# Altium integrated library Renesas Microprocessor SuperH.IntLib: 433 symbols (part 43 of 62)
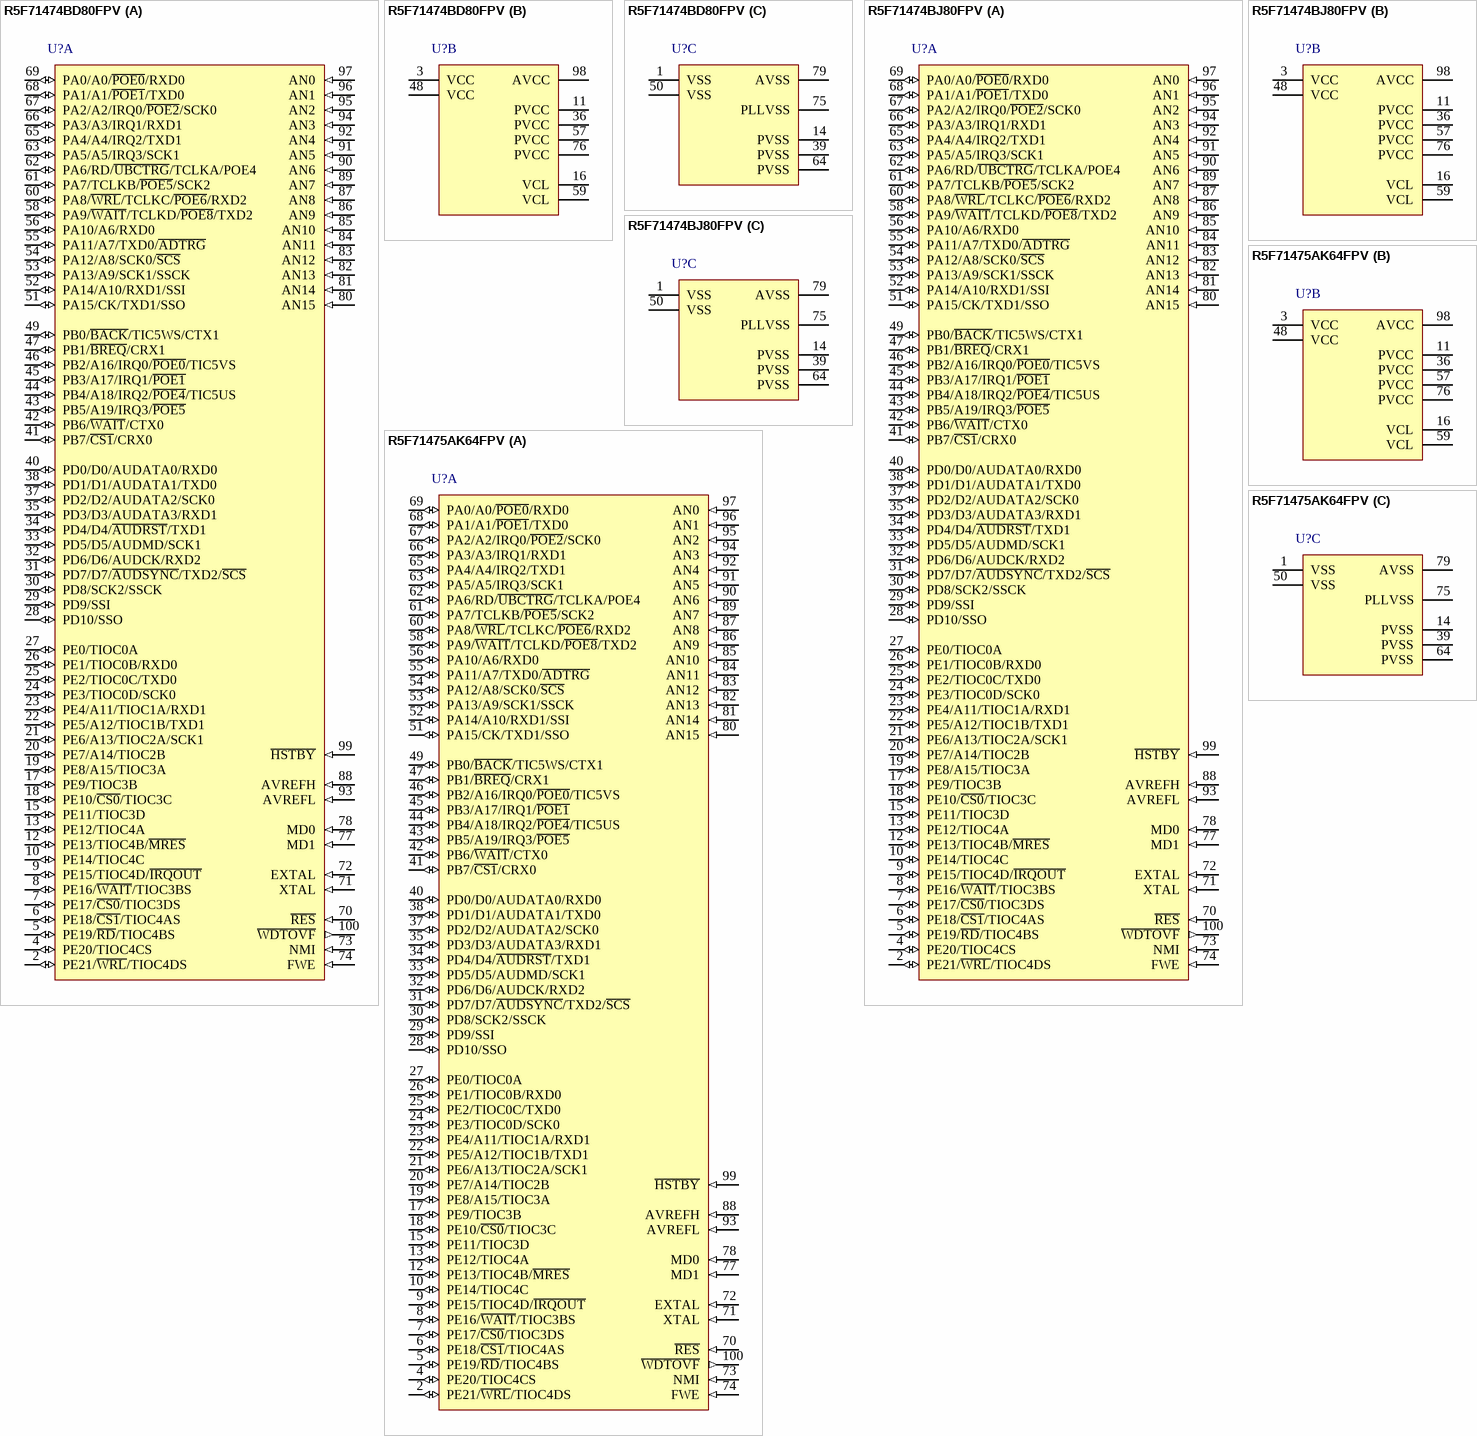
[diagram p307: symbols R5F71474BD80FPV to R5F71475AK64FPV]

## R5F71475AK64FPV
designator U?
32-Bit RISC Microcomputer, SH7147 Series, SH-2 core, 64MHz, 384K ROM, 16K RAM, 100-pin PLQFP, -40 to 125°C; Published: 28-Aug-2009; DatasheetVersion: Rev.3.00, Oct-2008; PackageVersion: Sep-2005; PackageReference: PLQP0100KB-A; Publisher: Altium Limited; PackageDescription: 100-Pin Plastic Low Profile QFP, 14 x 14 x 1.4 mm Body, 0.5 mm Pitch; Code_JEITA: P-LQFP100-14x14-0.50; Code_IPC: SQFP50P1600X1600-100; ComponentLink1Description: Manufacturer Link; ComponentLink1URL: http://www.renesas.com/fmwk.jsp?cnt=sh7147_root.jsp&fp=/products/mpumcu/superh_family/sh7147_series/sh7147_group/; ComponentLink2Description: Datasheet; ComponentLink2URL: http://documentation.renesas.com/eng/products/mpumcu/rej09b0230_sh7147hm.pdf; ComponentLink3Description: Packaging Specification; ComponentLink3URL: http://sg.renesas.com/media/products/common_info/package/pdf/ic/code/plqp0100kb_a.pdf
footprint PLQP0100KB-A_N (Shrink QFP, 100-Leads, Body 14x14mm, Pitch 0.5mm, IPC Medium Density)
footprint PLQP0100KB-A_L (Shrink QFP, 100-Leads, Body 14x14mm, Pitch 0.5mm, IPC High Density)
footprint PLQP0100KB-A_M (Shrink QFP, 100-Leads, Body 14x14mm, Pitch 0.5mm, IPC Low Density)
part A pins: 2 PE21/~{WRL}/TIOC4DS (io), 4 PE20/TIOC4CS (io), 5 PE19/~{RD}/TIOC4BS (io), 6 PE18/~{CS1}/TIOC4AS (io), 7 PE17/~{CS0}/TIOC3DS (io), 8 PE16/~{WAIT}/TIOC3BS (io), 9 PE15/TIOC4D/~{IRQOUT} (io), 10 PE14/TIOC4C (io), 12 PE13/TIOC4B/~{MRES} (io), 13 PE12/TIOC4A (io), 15 PE11/TIOC3D (io), 17 PE9/TIOC3B (io), 18 PE10/~{CS0}/TIOC3C (io), 19 PE8/A15/TIOC3A (io), 20 PE7/A14/TIOC2B (io), 21 PE6/A13/TIOC2A/SCK1 (io), 22 PE5/A12/TIOC1B/TXD1 (io), 23 PE4/A11/TIOC1A/RXD1 (io), 24 PE3/TIOC0D/SCK0 (io), 25 PE2/TIOC0C/TXD0 (io), 26 PE1/TIOC0B/RXD0 (io), 27 PE0/TIOC0A (io), 28 PD10/SSO (io), 29 PD9/SSI (io), 30 PD8/SCK2/SSCK (io), 31 PD7/D7/~{AUDSYNC}/TXD2/~{SCS} (io), 32 PD6/D6/AUDCK/RXD2 (io), 33 PD5/D5/AUDMD/SCK1 (io), 34 PD4/D4/~{AUDRST}/TXD1 (io), 35 PD3/D3/AUDATA3/RXD1 (io), 37 PD2/D2/AUDATA2/SCK0 (io), 38 PD1/D1/AUDATA1/TXD0 (io), 40 PD0/D0/AUDATA0/RXD0 (io), 41 PB7/~{CS1}/CRX0 (io), 42 PB6/~{WAIT}/CTX0 (io), 43 PB5/A19/IRQ3/~{POE5} (io), 44 PB4/A18/IRQ2/~{POE4}/TIC5US (io), 45 PB3/A17/IRQ1/~{POE1} (io), 46 PB2/A16/IRQ0/~{POE0}/TIC5VS (io), 47 PB1/~{BREQ}/CRX1 (io), 49 PB0/~{BACK}/TIC5WS/CTX1 (io), 51 PA15/CK/TXD1/SSO (io), 52 PA14/A10/RXD1/SSI (io), 53 PA13/A9/SCK1/SSCK (io), 54 PA12/A8/SCK0/~{SCS} (io), 55 PA11/A7/TXD0/~{ADTRG} (io), 56 PA10/A6/RXD0 (io), 58 PA9/~{WAIT}/TCLKD/~{POE8}/TXD2 (io), 60 PA8/~{WRL}/TCLKC/~{POE6}/RXD2 (io), 61 PA7/TCLKB/~{POE5}/SCK2 (io), 62 PA6/RD/~{UBCTRG}/TCLKA/POE4 (io), 63 PA5/A5/IRQ3/SCK1 (io), 65 PA4/A4/IRQ2/TXD1 (io), 66 PA3/A3/IRQ1/RXD1 (io), 67 PA2/A2/IRQ0/~{POE2}/SCK0 (io), 68 PA1/A1/~{POE1}/TXD0 (io), 69 PA0/A0/~{POE0}/RXD0 (io), 70 ~{RES} (in), 71 XTAL (in), 72 EXTAL (in), 73 NMI (in), 74 FWE (in), 77 MD1 (in), 78 MD0 (in), 80 AN15 (in), 81 AN14 (in), 82 AN13 (in), 83 AN12 (in), 84 AN11 (in), 85 AN10 (in), 86 AN9 (in), 87 AN8 (in), 88 AVREFH (in), 89 AN7 (in), 90 AN6 (in), 91 AN5 (in), 92 AN4 (in), 93 AVREFL (in), 94 AN3 (in), 95 AN2 (in), 96 AN1 (in), 97 AN0 (in), 99 ~{HSTBY} (in), 100 ~{WDTOVF} (out)
part B pins: 3 VCC (power), 11 PVCC (power), 16 VCL (power), 36 PVCC (power), 48 VCC (power), 57 PVCC (power), 59 VCL (power), 76 PVCC (power), 98 AVCC (power)
part C pins: 1 VSS (power), 14 PVSS (power), 39 PVSS (power), 50 VSS (power), 64 PVSS (power), 75 PLLVSS (power), 79 AVSS (power)

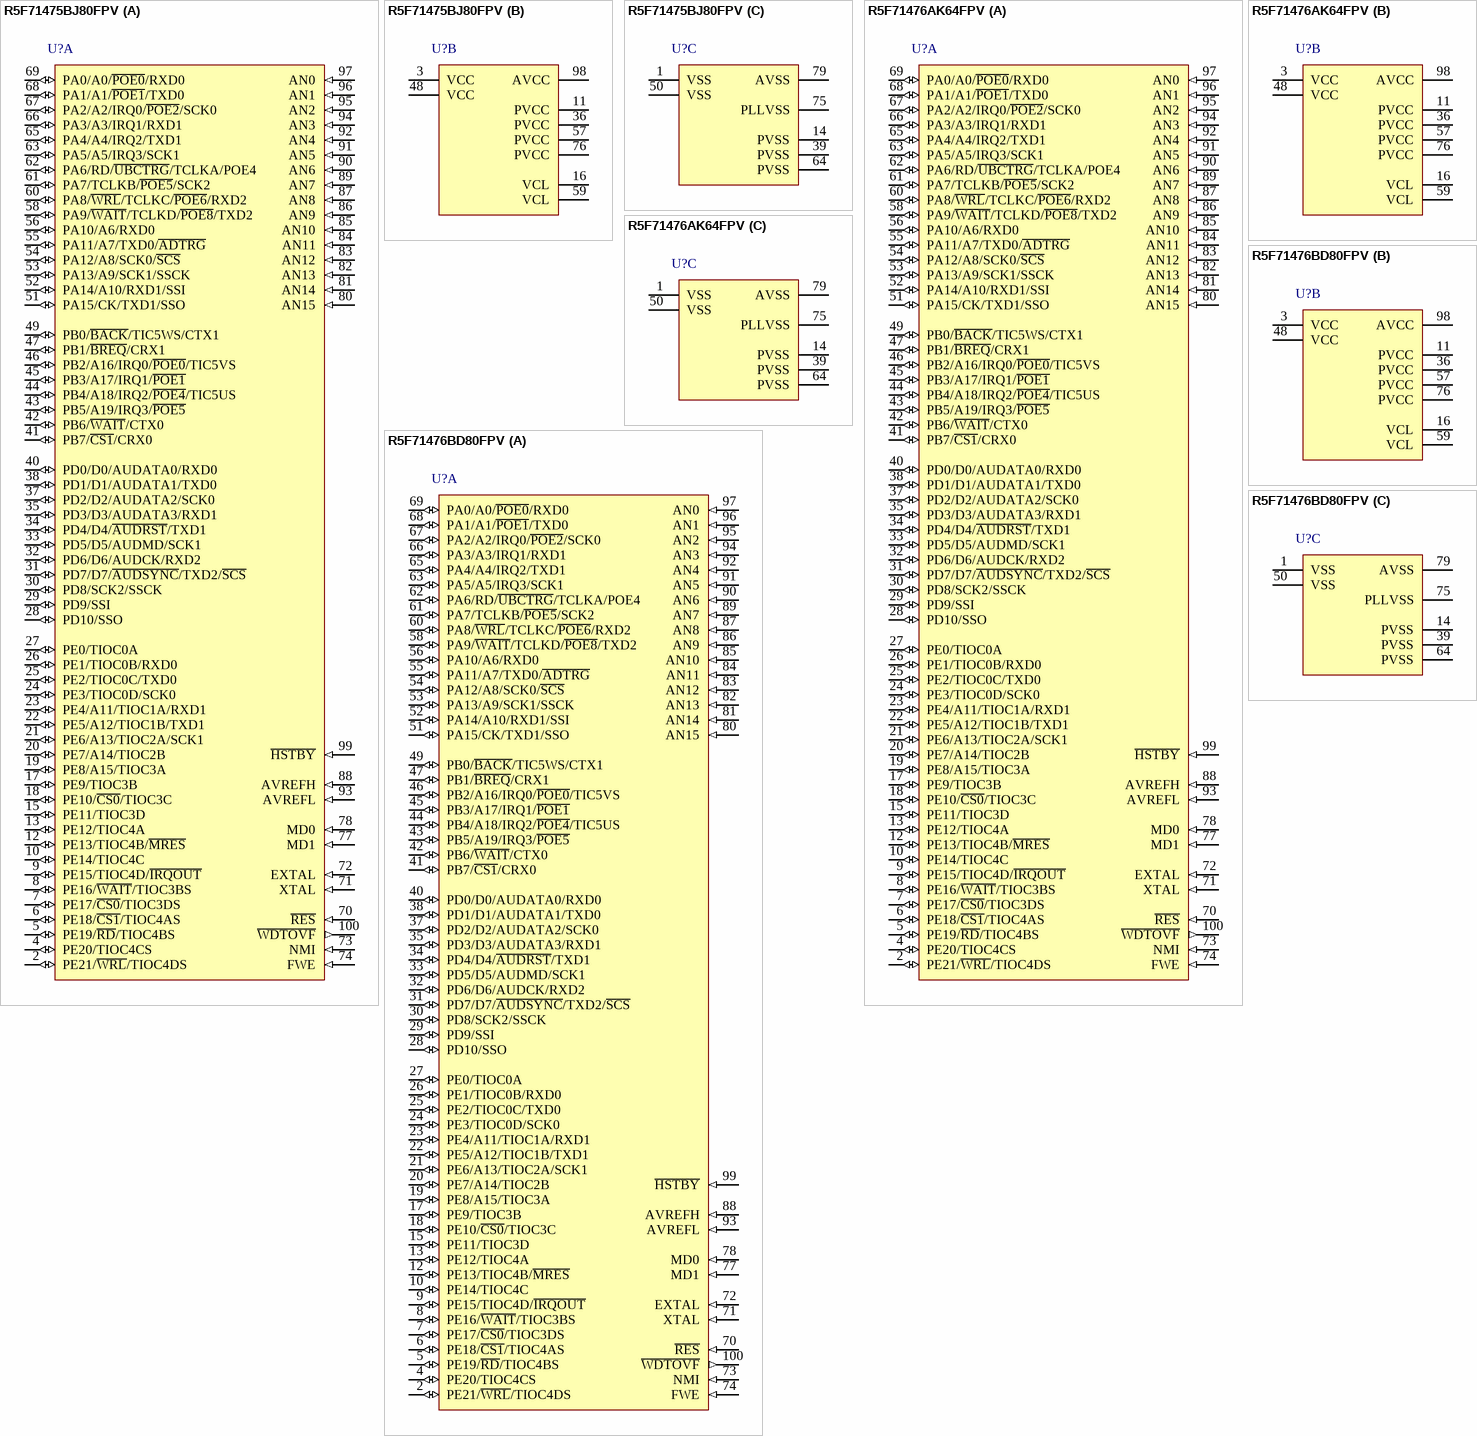
[diagram p155: symbols R5F71475BJ80FPV to R5F71476BD80FPV]

## R5F71475BJ80FPV
designator U?
32-Bit RISC Microcomputer, SH7147 Series, SH-2 core, 80MHz, 384K ROM, 16K RAM, 100-pin PLQFP, -40 to 85°C; Published: 28-Aug-2009; DatasheetVersion: Rev.3.00, Oct-2008; PackageVersion: Sep-2005; PackageReference: PLQP0100KB-A; Publisher: Altium Limited; PackageDescription: 100-Pin Plastic Low Profile QFP, 14 x 14 x 1.4 mm Body, 0.5 mm Pitch; Code_JEITA: P-LQFP100-14x14-0.50; Code_IPC: SQFP50P1600X1600-100; ComponentLink1Description: Manufacturer Link; ComponentLink1URL: http://www.renesas.com/fmwk.jsp?cnt=sh7147_root.jsp&fp=/products/mpumcu/superh_family/sh7147_series/sh7147_group/; ComponentLink2Description: Datasheet; ComponentLink2URL: http://documentation.renesas.com/eng/products/mpumcu/rej09b0230_sh7147hm.pdf; ComponentLink3Description: Packaging Specification; ComponentLink3URL: http://sg.renesas.com/media/products/common_info/package/pdf/ic/code/plqp0100kb_a.pdf
footprint PLQP0100KB-A_N (Shrink QFP, 100-Leads, Body 14x14mm, Pitch 0.5mm, IPC Medium Density)
footprint PLQP0100KB-A_L (Shrink QFP, 100-Leads, Body 14x14mm, Pitch 0.5mm, IPC High Density)
footprint PLQP0100KB-A_M (Shrink QFP, 100-Leads, Body 14x14mm, Pitch 0.5mm, IPC Low Density)
part A pins: 2 PE21/~{WRL}/TIOC4DS (io), 4 PE20/TIOC4CS (io), 5 PE19/~{RD}/TIOC4BS (io), 6 PE18/~{CS1}/TIOC4AS (io), 7 PE17/~{CS0}/TIOC3DS (io), 8 PE16/~{WAIT}/TIOC3BS (io), 9 PE15/TIOC4D/~{IRQOUT} (io), 10 PE14/TIOC4C (io), 12 PE13/TIOC4B/~{MRES} (io), 13 PE12/TIOC4A (io), 15 PE11/TIOC3D (io), 17 PE9/TIOC3B (io), 18 PE10/~{CS0}/TIOC3C (io), 19 PE8/A15/TIOC3A (io), 20 PE7/A14/TIOC2B (io), 21 PE6/A13/TIOC2A/SCK1 (io), 22 PE5/A12/TIOC1B/TXD1 (io), 23 PE4/A11/TIOC1A/RXD1 (io), 24 PE3/TIOC0D/SCK0 (io), 25 PE2/TIOC0C/TXD0 (io), 26 PE1/TIOC0B/RXD0 (io), 27 PE0/TIOC0A (io), 28 PD10/SSO (io), 29 PD9/SSI (io), 30 PD8/SCK2/SSCK (io), 31 PD7/D7/~{AUDSYNC}/TXD2/~{SCS} (io), 32 PD6/D6/AUDCK/RXD2 (io), 33 PD5/D5/AUDMD/SCK1 (io), 34 PD4/D4/~{AUDRST}/TXD1 (io), 35 PD3/D3/AUDATA3/RXD1 (io), 37 PD2/D2/AUDATA2/SCK0 (io), 38 PD1/D1/AUDATA1/TXD0 (io), 40 PD0/D0/AUDATA0/RXD0 (io), 41 PB7/~{CS1}/CRX0 (io), 42 PB6/~{WAIT}/CTX0 (io), 43 PB5/A19/IRQ3/~{POE5} (io), 44 PB4/A18/IRQ2/~{POE4}/TIC5US (io), 45 PB3/A17/IRQ1/~{POE1} (io), 46 PB2/A16/IRQ0/~{POE0}/TIC5VS (io), 47 PB1/~{BREQ}/CRX1 (io), 49 PB0/~{BACK}/TIC5WS/CTX1 (io), 51 PA15/CK/TXD1/SSO (io), 52 PA14/A10/RXD1/SSI (io), 53 PA13/A9/SCK1/SSCK (io), 54 PA12/A8/SCK0/~{SCS} (io), 55 PA11/A7/TXD0/~{ADTRG} (io), 56 PA10/A6/RXD0 (io), 58 PA9/~{WAIT}/TCLKD/~{POE8}/TXD2 (io), 60 PA8/~{WRL}/TCLKC/~{POE6}/RXD2 (io), 61 PA7/TCLKB/~{POE5}/SCK2 (io), 62 PA6/RD/~{UBCTRG}/TCLKA/POE4 (io), 63 PA5/A5/IRQ3/SCK1 (io), 65 PA4/A4/IRQ2/TXD1 (io), 66 PA3/A3/IRQ1/RXD1 (io), 67 PA2/A2/IRQ0/~{POE2}/SCK0 (io), 68 PA1/A1/~{POE1}/TXD0 (io), 69 PA0/A0/~{POE0}/RXD0 (io), 70 ~{RES} (in), 71 XTAL (in), 72 EXTAL (in), 73 NMI (in), 74 FWE (in), 77 MD1 (in), 78 MD0 (in), 80 AN15 (in), 81 AN14 (in), 82 AN13 (in), 83 AN12 (in), 84 AN11 (in), 85 AN10 (in), 86 AN9 (in), 87 AN8 (in), 88 AVREFH (in), 89 AN7 (in), 90 AN6 (in), 91 AN5 (in), 92 AN4 (in), 93 AVREFL (in), 94 AN3 (in), 95 AN2 (in), 96 AN1 (in), 97 AN0 (in), 99 ~{HSTBY} (in), 100 ~{WDTOVF} (out)
part B pins: 3 VCC (power), 11 PVCC (power), 16 VCL (power), 36 PVCC (power), 48 VCC (power), 57 PVCC (power), 59 VCL (power), 76 PVCC (power), 98 AVCC (power)
part C pins: 1 VSS (power), 14 PVSS (power), 39 PVSS (power), 50 VSS (power), 64 PVSS (power), 75 PLLVSS (power), 79 AVSS (power)

## R5F71476AK64FPV
designator U?
32-Bit RISC Microcomputer, SH7147 Series, SH-2 core, 64MHz, 512K ROM, 16K RAM, 100-pin PLQFP, -40 to 125°C; Published: 28-Aug-2009; DatasheetVersion: Rev.3.00, Oct-2008; PackageVersion: Sep-2005; PackageReference: PLQP0100KB-A; Publisher: Altium Limited; PackageDescription: 100-Pin Plastic Low Profile QFP, 14 x 14 x 1.4 mm Body, 0.5 mm Pitch; Code_JEITA: P-LQFP100-14x14-0.50; Code_IPC: SQFP50P1600X1600-100; ComponentLink1Description: Manufacturer Link; ComponentLink1URL: http://www.renesas.com/fmwk.jsp?cnt=sh7147_root.jsp&fp=/products/mpumcu/superh_family/sh7147_series/sh7147_group/; ComponentLink2Description: Datasheet; ComponentLink2URL: http://documentation.renesas.com/eng/products/mpumcu/rej09b0230_sh7147hm.pdf; ComponentLink3Description: Packaging Specification; ComponentLink3URL: http://sg.renesas.com/media/products/common_info/package/pdf/ic/code/plqp0100kb_a.pdf
footprint PLQP0100KB-A_N (Shrink QFP, 100-Leads, Body 14x14mm, Pitch 0.5mm, IPC Medium Density)
footprint PLQP0100KB-A_L (Shrink QFP, 100-Leads, Body 14x14mm, Pitch 0.5mm, IPC High Density)
footprint PLQP0100KB-A_M (Shrink QFP, 100-Leads, Body 14x14mm, Pitch 0.5mm, IPC Low Density)
part A pins: 2 PE21/~{WRL}/TIOC4DS (io), 4 PE20/TIOC4CS (io), 5 PE19/~{RD}/TIOC4BS (io), 6 PE18/~{CS1}/TIOC4AS (io), 7 PE17/~{CS0}/TIOC3DS (io), 8 PE16/~{WAIT}/TIOC3BS (io), 9 PE15/TIOC4D/~{IRQOUT} (io), 10 PE14/TIOC4C (io), 12 PE13/TIOC4B/~{MRES} (io), 13 PE12/TIOC4A (io), 15 PE11/TIOC3D (io), 17 PE9/TIOC3B (io), 18 PE10/~{CS0}/TIOC3C (io), 19 PE8/A15/TIOC3A (io), 20 PE7/A14/TIOC2B (io), 21 PE6/A13/TIOC2A/SCK1 (io), 22 PE5/A12/TIOC1B/TXD1 (io), 23 PE4/A11/TIOC1A/RXD1 (io), 24 PE3/TIOC0D/SCK0 (io), 25 PE2/TIOC0C/TXD0 (io), 26 PE1/TIOC0B/RXD0 (io), 27 PE0/TIOC0A (io), 28 PD10/SSO (io), 29 PD9/SSI (io), 30 PD8/SCK2/SSCK (io), 31 PD7/D7/~{AUDSYNC}/TXD2/~{SCS} (io), 32 PD6/D6/AUDCK/RXD2 (io), 33 PD5/D5/AUDMD/SCK1 (io), 34 PD4/D4/~{AUDRST}/TXD1 (io), 35 PD3/D3/AUDATA3/RXD1 (io), 37 PD2/D2/AUDATA2/SCK0 (io), 38 PD1/D1/AUDATA1/TXD0 (io), 40 PD0/D0/AUDATA0/RXD0 (io), 41 PB7/~{CS1}/CRX0 (io), 42 PB6/~{WAIT}/CTX0 (io), 43 PB5/A19/IRQ3/~{POE5} (io), 44 PB4/A18/IRQ2/~{POE4}/TIC5US (io), 45 PB3/A17/IRQ1/~{POE1} (io), 46 PB2/A16/IRQ0/~{POE0}/TIC5VS (io), 47 PB1/~{BREQ}/CRX1 (io), 49 PB0/~{BACK}/TIC5WS/CTX1 (io), 51 PA15/CK/TXD1/SSO (io), 52 PA14/A10/RXD1/SSI (io), 53 PA13/A9/SCK1/SSCK (io), 54 PA12/A8/SCK0/~{SCS} (io), 55 PA11/A7/TXD0/~{ADTRG} (io), 56 PA10/A6/RXD0 (io), 58 PA9/~{WAIT}/TCLKD/~{POE8}/TXD2 (io), 60 PA8/~{WRL}/TCLKC/~{POE6}/RXD2 (io), 61 PA7/TCLKB/~{POE5}/SCK2 (io), 62 PA6/RD/~{UBCTRG}/TCLKA/POE4 (io), 63 PA5/A5/IRQ3/SCK1 (io), 65 PA4/A4/IRQ2/TXD1 (io), 66 PA3/A3/IRQ1/RXD1 (io), 67 PA2/A2/IRQ0/~{POE2}/SCK0 (io), 68 PA1/A1/~{POE1}/TXD0 (io), 69 PA0/A0/~{POE0}/RXD0 (io), 70 ~{RES} (in), 71 XTAL (in), 72 EXTAL (in), 73 NMI (in), 74 FWE (in), 77 MD1 (in), 78 MD0 (in), 80 AN15 (in), 81 AN14 (in), 82 AN13 (in), 83 AN12 (in), 84 AN11 (in), 85 AN10 (in), 86 AN9 (in), 87 AN8 (in), 88 AVREFH (in), 89 AN7 (in), 90 AN6 (in), 91 AN5 (in), 92 AN4 (in), 93 AVREFL (in), 94 AN3 (in), 95 AN2 (in), 96 AN1 (in), 97 AN0 (in), 99 ~{HSTBY} (in), 100 ~{WDTOVF} (out)
part B pins: 3 VCC (power), 11 PVCC (power), 16 VCL (power), 36 PVCC (power), 48 VCC (power), 57 PVCC (power), 59 VCL (power), 76 PVCC (power), 98 AVCC (power)
part C pins: 1 VSS (power), 14 PVSS (power), 39 PVSS (power), 50 VSS (power), 64 PVSS (power), 75 PLLVSS (power), 79 AVSS (power)

## R5F71476BD80FPV
designator U?
32-Bit RISC Microcomputer, SH7147 Series, SH-2 core, 80MHz, 512K ROM, 16K RAM, 100-pin PLQFP, -40 to 85°C; Published: 28-Aug-2009; DatasheetVersion: Rev.3.00, Oct-2008; PackageVersion: Sep-2005; PackageReference: PLQP0100KB-A; Publisher: Altium Limited; PackageDescription: 100-Pin Plastic Low Profile QFP, 14 x 14 x 1.4 mm Body, 0.5 mm Pitch; Code_JEITA: P-LQFP100-14x14-0.50; Code_IPC: SQFP50P1600X1600-100; ComponentLink1Description: Manufacturer Link; ComponentLink1URL: http://www.renesas.com/fmwk.jsp?cnt=sh7147_root.jsp&fp=/products/mpumcu/superh_family/sh7147_series/sh7147_group/; ComponentLink2Description: Datasheet; ComponentLink2URL: http://documentation.renesas.com/eng/products/mpumcu/rej09b0230_sh7147hm.pdf; ComponentLink3Description: Packaging Specification; ComponentLink3URL: http://sg.renesas.com/media/products/common_info/package/pdf/ic/code/plqp0100kb_a.pdf
footprint PLQP0100KB-A_N (Shrink QFP, 100-Leads, Body 14x14mm, Pitch 0.5mm, IPC Medium Density)
footprint PLQP0100KB-A_L (Shrink QFP, 100-Leads, Body 14x14mm, Pitch 0.5mm, IPC High Density)
footprint PLQP0100KB-A_M (Shrink QFP, 100-Leads, Body 14x14mm, Pitch 0.5mm, IPC Low Density)
part A pins: 2 PE21/~{WRL}/TIOC4DS (io), 4 PE20/TIOC4CS (io), 5 PE19/~{RD}/TIOC4BS (io), 6 PE18/~{CS1}/TIOC4AS (io), 7 PE17/~{CS0}/TIOC3DS (io), 8 PE16/~{WAIT}/TIOC3BS (io), 9 PE15/TIOC4D/~{IRQOUT} (io), 10 PE14/TIOC4C (io), 12 PE13/TIOC4B/~{MRES} (io), 13 PE12/TIOC4A (io), 15 PE11/TIOC3D (io), 17 PE9/TIOC3B (io), 18 PE10/~{CS0}/TIOC3C (io), 19 PE8/A15/TIOC3A (io), 20 PE7/A14/TIOC2B (io), 21 PE6/A13/TIOC2A/SCK1 (io), 22 PE5/A12/TIOC1B/TXD1 (io), 23 PE4/A11/TIOC1A/RXD1 (io), 24 PE3/TIOC0D/SCK0 (io), 25 PE2/TIOC0C/TXD0 (io), 26 PE1/TIOC0B/RXD0 (io), 27 PE0/TIOC0A (io), 28 PD10/SSO (io), 29 PD9/SSI (io), 30 PD8/SCK2/SSCK (io), 31 PD7/D7/~{AUDSYNC}/TXD2/~{SCS} (io), 32 PD6/D6/AUDCK/RXD2 (io), 33 PD5/D5/AUDMD/SCK1 (io), 34 PD4/D4/~{AUDRST}/TXD1 (io), 35 PD3/D3/AUDATA3/RXD1 (io), 37 PD2/D2/AUDATA2/SCK0 (io), 38 PD1/D1/AUDATA1/TXD0 (io), 40 PD0/D0/AUDATA0/RXD0 (io), 41 PB7/~{CS1}/CRX0 (io), 42 PB6/~{WAIT}/CTX0 (io), 43 PB5/A19/IRQ3/~{POE5} (io), 44 PB4/A18/IRQ2/~{POE4}/TIC5US (io), 45 PB3/A17/IRQ1/~{POE1} (io), 46 PB2/A16/IRQ0/~{POE0}/TIC5VS (io), 47 PB1/~{BREQ}/CRX1 (io), 49 PB0/~{BACK}/TIC5WS/CTX1 (io), 51 PA15/CK/TXD1/SSO (io), 52 PA14/A10/RXD1/SSI (io), 53 PA13/A9/SCK1/SSCK (io), 54 PA12/A8/SCK0/~{SCS} (io), 55 PA11/A7/TXD0/~{ADTRG} (io), 56 PA10/A6/RXD0 (io), 58 PA9/~{WAIT}/TCLKD/~{POE8}/TXD2 (io), 60 PA8/~{WRL}/TCLKC/~{POE6}/RXD2 (io), 61 PA7/TCLKB/~{POE5}/SCK2 (io), 62 PA6/RD/~{UBCTRG}/TCLKA/POE4 (io), 63 PA5/A5/IRQ3/SCK1 (io), 65 PA4/A4/IRQ2/TXD1 (io), 66 PA3/A3/IRQ1/RXD1 (io), 67 PA2/A2/IRQ0/~{POE2}/SCK0 (io), 68 PA1/A1/~{POE1}/TXD0 (io), 69 PA0/A0/~{POE0}/RXD0 (io), 70 ~{RES} (in), 71 XTAL (in), 72 EXTAL (in), 73 NMI (in), 74 FWE (in), 77 MD1 (in), 78 MD0 (in), 80 AN15 (in), 81 AN14 (in), 82 AN13 (in), 83 AN12 (in), 84 AN11 (in), 85 AN10 (in), 86 AN9 (in), 87 AN8 (in), 88 AVREFH (in), 89 AN7 (in), 90 AN6 (in), 91 AN5 (in), 92 AN4 (in), 93 AVREFL (in), 94 AN3 (in), 95 AN2 (in), 96 AN1 (in), 97 AN0 (in), 99 ~{HSTBY} (in), 100 ~{WDTOVF} (out)
part B pins: 3 VCC (power), 11 PVCC (power), 16 VCL (power), 36 PVCC (power), 48 VCC (power), 57 PVCC (power), 59 VCL (power), 76 PVCC (power), 98 AVCC (power)
part C pins: 1 VSS (power), 14 PVSS (power), 39 PVSS (power), 50 VSS (power), 64 PVSS (power), 75 PLLVSS (power), 79 AVSS (power)

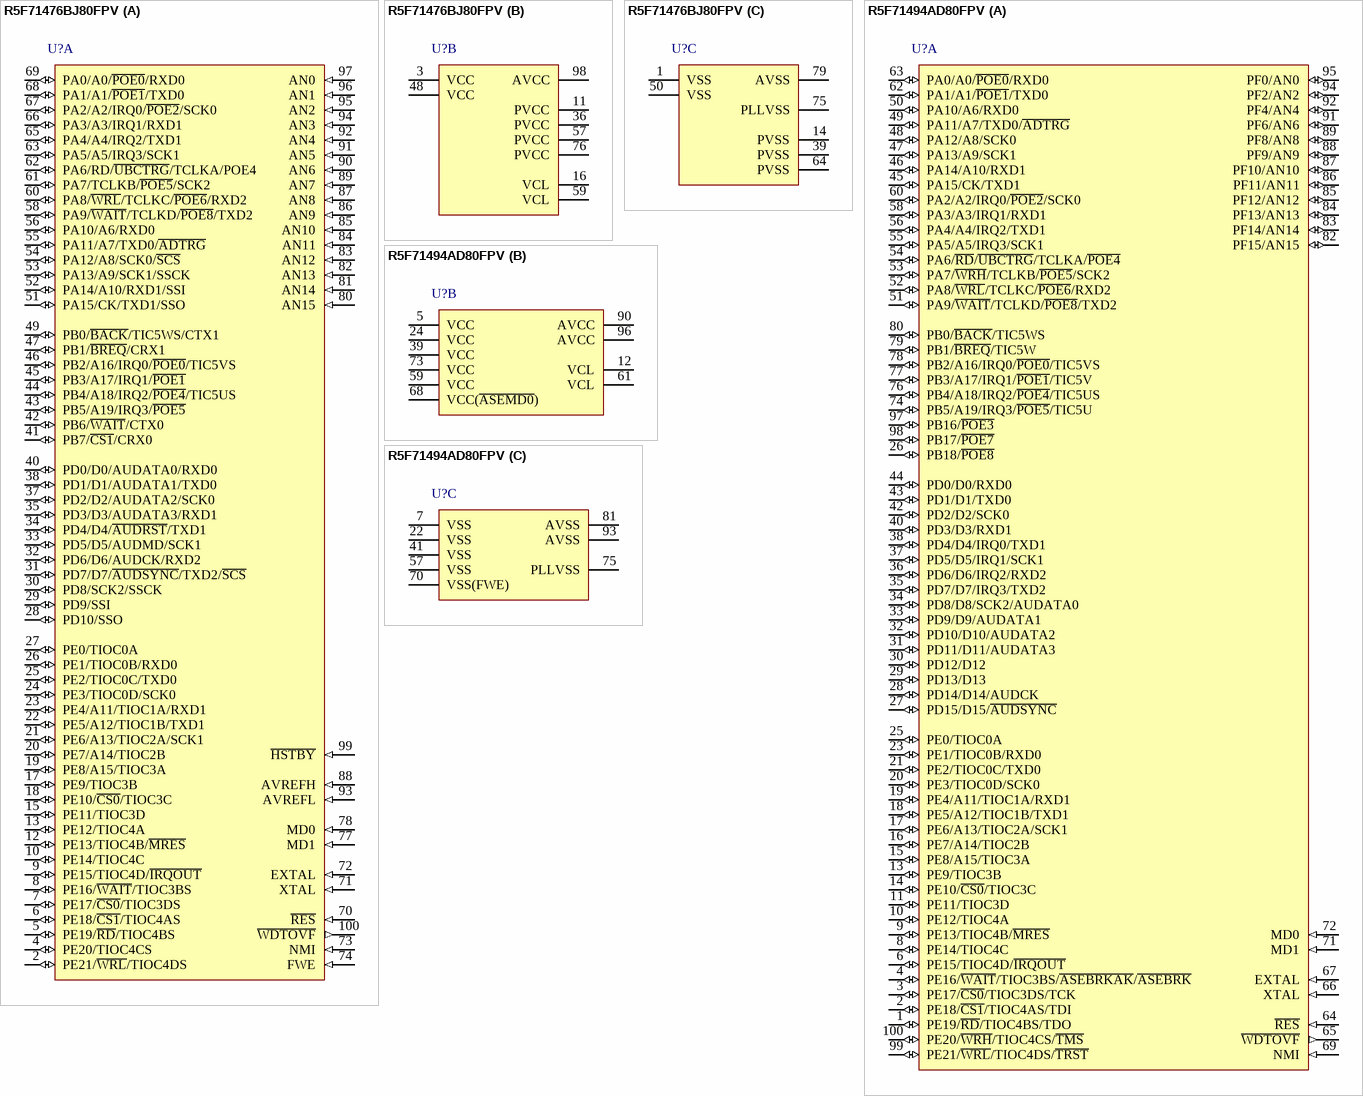
[diagram p156: symbols R5F71476BJ80FPV to R5F71494AD80FPV]

## R5F71476BJ80FPV
designator U?
32-Bit RISC Microcomputer, SH7147 Series, SH-2 core, 80MHz, 512K ROM, 16K RAM, 100-pin PLQFP, -40 to 85°C; Published: 28-Aug-2009; DatasheetVersion: Rev.3.00, Oct-2008; PackageVersion: Sep-2005; PackageReference: PLQP0100KB-A; Publisher: Altium Limited; PackageDescription: 100-Pin Plastic Low Profile QFP, 14 x 14 x 1.4 mm Body, 0.5 mm Pitch; Code_JEITA: P-LQFP100-14x14-0.50; Code_IPC: SQFP50P1600X1600-100; ComponentLink1Description: Manufacturer Link; ComponentLink1URL: http://www.renesas.com/fmwk.jsp?cnt=sh7147_root.jsp&fp=/products/mpumcu/superh_family/sh7147_series/sh7147_group/; ComponentLink2Description: Datasheet; ComponentLink2URL: http://documentation.renesas.com/eng/products/mpumcu/rej09b0230_sh7147hm.pdf; ComponentLink3Description: Packaging Specification; ComponentLink3URL: http://sg.renesas.com/media/products/common_info/package/pdf/ic/code/plqp0100kb_a.pdf
footprint PLQP0100KB-A_N (Shrink QFP, 100-Leads, Body 14x14mm, Pitch 0.5mm, IPC Medium Density)
footprint PLQP0100KB-A_L (Shrink QFP, 100-Leads, Body 14x14mm, Pitch 0.5mm, IPC High Density)
footprint PLQP0100KB-A_M (Shrink QFP, 100-Leads, Body 14x14mm, Pitch 0.5mm, IPC Low Density)
part A pins: 2 PE21/~{WRL}/TIOC4DS (io), 4 PE20/TIOC4CS (io), 5 PE19/~{RD}/TIOC4BS (io), 6 PE18/~{CS1}/TIOC4AS (io), 7 PE17/~{CS0}/TIOC3DS (io), 8 PE16/~{WAIT}/TIOC3BS (io), 9 PE15/TIOC4D/~{IRQOUT} (io), 10 PE14/TIOC4C (io), 12 PE13/TIOC4B/~{MRES} (io), 13 PE12/TIOC4A (io), 15 PE11/TIOC3D (io), 17 PE9/TIOC3B (io), 18 PE10/~{CS0}/TIOC3C (io), 19 PE8/A15/TIOC3A (io), 20 PE7/A14/TIOC2B (io), 21 PE6/A13/TIOC2A/SCK1 (io), 22 PE5/A12/TIOC1B/TXD1 (io), 23 PE4/A11/TIOC1A/RXD1 (io), 24 PE3/TIOC0D/SCK0 (io), 25 PE2/TIOC0C/TXD0 (io), 26 PE1/TIOC0B/RXD0 (io), 27 PE0/TIOC0A (io), 28 PD10/SSO (io), 29 PD9/SSI (io), 30 PD8/SCK2/SSCK (io), 31 PD7/D7/~{AUDSYNC}/TXD2/~{SCS} (io), 32 PD6/D6/AUDCK/RXD2 (io), 33 PD5/D5/AUDMD/SCK1 (io), 34 PD4/D4/~{AUDRST}/TXD1 (io), 35 PD3/D3/AUDATA3/RXD1 (io), 37 PD2/D2/AUDATA2/SCK0 (io), 38 PD1/D1/AUDATA1/TXD0 (io), 40 PD0/D0/AUDATA0/RXD0 (io), 41 PB7/~{CS1}/CRX0 (io), 42 PB6/~{WAIT}/CTX0 (io), 43 PB5/A19/IRQ3/~{POE5} (io), 44 PB4/A18/IRQ2/~{POE4}/TIC5US (io), 45 PB3/A17/IRQ1/~{POE1} (io), 46 PB2/A16/IRQ0/~{POE0}/TIC5VS (io), 47 PB1/~{BREQ}/CRX1 (io), 49 PB0/~{BACK}/TIC5WS/CTX1 (io), 51 PA15/CK/TXD1/SSO (io), 52 PA14/A10/RXD1/SSI (io), 53 PA13/A9/SCK1/SSCK (io), 54 PA12/A8/SCK0/~{SCS} (io), 55 PA11/A7/TXD0/~{ADTRG} (io), 56 PA10/A6/RXD0 (io), 58 PA9/~{WAIT}/TCLKD/~{POE8}/TXD2 (io), 60 PA8/~{WRL}/TCLKC/~{POE6}/RXD2 (io), 61 PA7/TCLKB/~{POE5}/SCK2 (io), 62 PA6/RD/~{UBCTRG}/TCLKA/POE4 (io), 63 PA5/A5/IRQ3/SCK1 (io), 65 PA4/A4/IRQ2/TXD1 (io), 66 PA3/A3/IRQ1/RXD1 (io), 67 PA2/A2/IRQ0/~{POE2}/SCK0 (io), 68 PA1/A1/~{POE1}/TXD0 (io), 69 PA0/A0/~{POE0}/RXD0 (io), 70 ~{RES} (in), 71 XTAL (in), 72 EXTAL (in), 73 NMI (in), 74 FWE (in), 77 MD1 (in), 78 MD0 (in), 80 AN15 (in), 81 AN14 (in), 82 AN13 (in), 83 AN12 (in), 84 AN11 (in), 85 AN10 (in), 86 AN9 (in), 87 AN8 (in), 88 AVREFH (in), 89 AN7 (in), 90 AN6 (in), 91 AN5 (in), 92 AN4 (in), 93 AVREFL (in), 94 AN3 (in), 95 AN2 (in), 96 AN1 (in), 97 AN0 (in), 99 ~{HSTBY} (in), 100 ~{WDTOVF} (out)
part B pins: 3 VCC (power), 11 PVCC (power), 16 VCL (power), 36 PVCC (power), 48 VCC (power), 57 PVCC (power), 59 VCL (power), 76 PVCC (power), 98 AVCC (power)
part C pins: 1 VSS (power), 14 PVSS (power), 39 PVSS (power), 50 VSS (power), 64 PVSS (power), 75 PLLVSS (power), 79 AVSS (power)

## R5F71494AD80FPV
designator U?
32-Bit RISC Microcomputer, SH7146 Series, SH-2 core, 80MHz, 256K ROM, 8K RAM, 100-pin PLQFP, -40 to 85°C; Published: 28-Aug-2009; DatasheetVersion: Rev.3.00, May-2007; PackageVersion: Sep-2005; PackageReference: PLQP0100KB-A; Publisher: Altium Limited; PackageDescription: 100-Pin Plastic Low Profile QFP, 14 x 14 x 1.4 mm Body, 0.5 mm Pitch; Code_JEITA: P-LQFP100-14x14-0.50; Code_IPC: SQFP50P1600X1600-100; ComponentLink1Description: Manufacturer Link; ComponentLink1URL: http://www.renesas.com/fmwk.jsp?cnt=sh7146_root.jsp&fp=/products/mpumcu/superh_family/sh7146_series/sh7146_group/; ComponentLink2Description: Datasheet; ComponentLink2URL: http://documentation.renesas.com/eng/products/mpumcu/rej09b0229_sh7146hm.pdf; ComponentLink3Description: Packaging Specification; ComponentLink3URL: http://sg.renesas.com/media/products/common_info/package/pdf/ic/code/plqp0100kb_a.pdf
footprint PLQP0100KB-A_N (Shrink QFP, 100-Leads, Body 14x14mm, Pitch 0.5mm, IPC Medium Density)
footprint PLQP0100KB-A_L (Shrink QFP, 100-Leads, Body 14x14mm, Pitch 0.5mm, IPC High Density)
footprint PLQP0100KB-A_M (Shrink QFP, 100-Leads, Body 14x14mm, Pitch 0.5mm, IPC Low Density)
part A pins: 1 PE19/~{RD}/TIOC4BS/TDO (io), 2 PE18/~{CS1}/TIOC4AS/TDI (io), 3 PE17/~{CS0}/TIOC3DS/TCK (io), 4 PE16/~{WAIT}/TIOC3BS/~{ASEBRKAK}/~{ASEBRK} (io), 6 PE15/TIOC4D/~{IRQOUT} (io), 8 PE14/TIOC4C (io), 9 PE13/TIOC4B/~{MRES} (io), 10 PE12/TIOC4A (io), 11 PE11/TIOC3D (io), 13 PE9/TIOC3B (io), 14 PE10/~{CS0}/TIOC3C (io), 15 PE8/A15/TIOC3A (io), 16 PE7/A14/TIOC2B (io), 17 PE6/A13/TIOC2A/SCK1 (io), 18 PE5/A12/TIOC1B/TXD1 (io), 19 PE4/A11/TIOC1A/RXD1 (io), 20 PE3/TIOC0D/SCK0 (io), 21 PE2/TIOC0C/TXD0 (io), 23 PE1/TIOC0B/RXD0 (io), 25 PE0/TIOC0A (io), 26 PB18/~{POE8} (io), 27 PD15/D15/~{AUDSYNC} (io), 28 PD14/D14/AUDCK (io), 29 PD13/D13 (io), 30 PD12/D12 (io), 31 PD11/D11/AUDATA3 (io), 32 PD10/D10/AUDATA2 (io), 33 PD9/D9/AUDATA1 (io), 34 PD8/D8/SCK2/AUDATA0 (io), 35 PD7/D7/IRQ3/TXD2 (io), 36 PD6/D6/IRQ2/RXD2 (io), 37 PD5/D5/IRQ1/SCK1 (io), 38 PD4/D4/IRQ0/TXD1 (io), 40 PD3/D3/RXD1 (io), 42 PD2/D2/SCK0 (io), 43 PD1/D1/TXD0 (io), 44 PD0/D0/RXD0 (io), 45 PA15/CK/TXD1 (io), 46 PA14/A10/RXD1 (io), 47 PA13/A9/SCK1 (io), 48 PA12/A8/SCK0 (io), 49 PA11/A7/TXD0/~{ADTRG} (io), 50 PA10/A6/RXD0 (io), 51 PA9/~{WAIT}/TCLKD/~{POE8}/TXD2 (io), 52 PA8/~{WRL}/TCLKC/~{POE6}/RXD2 (io), 53 PA7/~{WRH}/TCLKB/~{POE5}/SCK2 (io), 54 PA6/~{RD}/~{UBCTRG}/TCLKA/~{POE4} (io), 55 PA5/A5/IRQ3/SCK1 (io), 56 PA4/A4/IRQ2/TXD1 (io), 58 PA3/A3/IRQ1/RXD1 (io), 60 PA2/A2/IRQ0/~{POE2}/SCK0 (io), 62 PA1/A1/~{POE1}/TXD0 (io), 63 PA0/A0/~{POE0}/RXD0 (io), 64 ~{RES} (in), 65 ~{WDTOVF} (out), 66 XTAL (in), 67 EXTAL (in), 69 NMI (in), 71 MD1 (in), 72 MD0 (in), 74 PB5/A19/IRQ3/~{POE5}/TIC5U (io), 76 PB4/A18/IRQ2/~{POE4}/TIC5US (io), 77 PB3/A17/IRQ1/~{POE1}/TIC5V (io), 78 PB2/A16/IRQ0/~{POE0}/TIC5VS (io), 79 PB1/~{BREQ}/TIC5W (io), 80 PB0/~{BACK}/TIC5WS (io), 82 PF15/AN15 (io), 83 PF14/AN14 (io), 84 PF13/AN13 (io), 85 PF12/AN12 (io), 86 PF11/AN11 (io), 87 PF10/AN10 (io), 88 PF9/AN9 (io), 89 PF8/AN8 (io), 91 PF6/AN6 (io), 92 PF4/AN4 (io), 94 PF2/AN2 (io), 95 PF0/AN0 (io), 97 PB16/~{POE3} (io), 98 PB17/~{POE7} (io), 99 PE21/~{WRL}/TIOC4DS/~{TRST} (io), 100 PE20/~{WRH}/TIOC4CS/~{TMS} (io)
part B pins: 5 VCC (power), 12 VCL (power), 24 VCC (power), 39 VCC (power), 59 VCC (power), 61 VCL (power), 68 VCC(~{ASEMD0}) (power), 73 VCC (power), 90 AVCC (power), 96 AVCC (power)
part C pins: 7 VSS (power), 22 VSS (power), 41 VSS (power), 57 VSS (power), 70 VSS(FWE) (power), 75 PLLVSS (power), 81 AVSS (power), 93 AVSS (power)

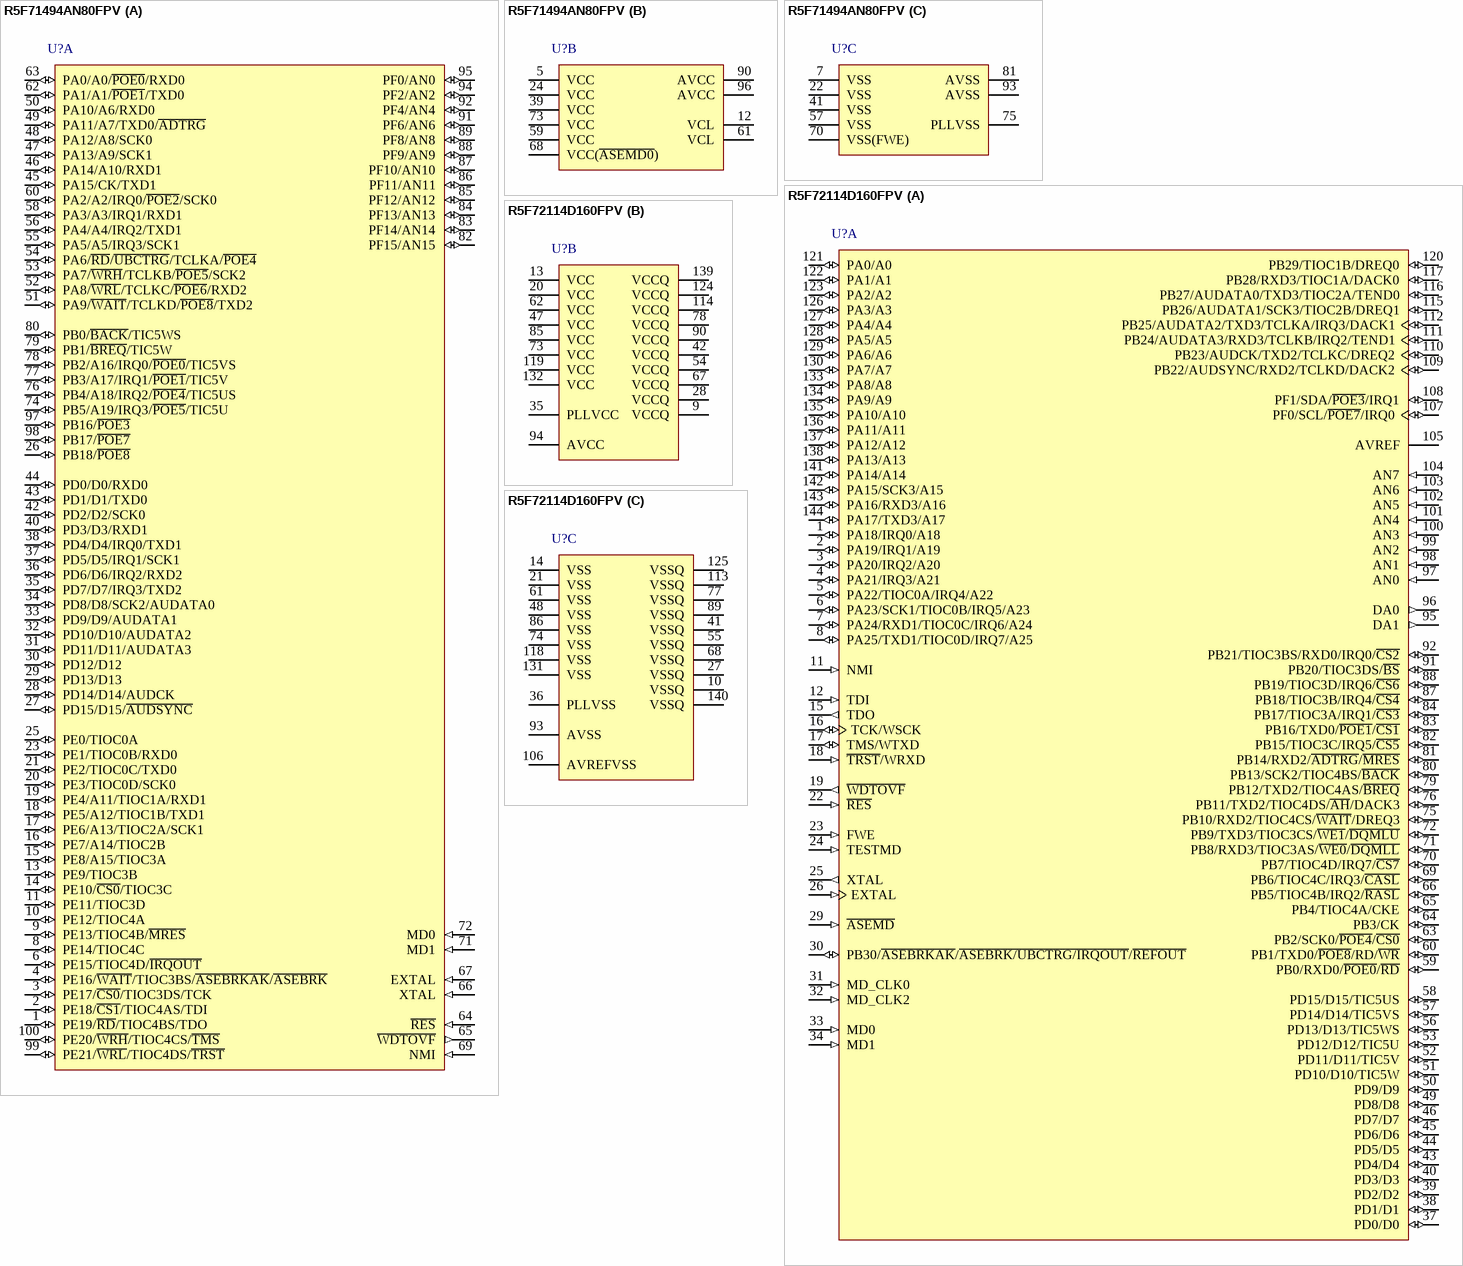
[diagram p157: symbols R5F71494AN80FPV to R5F72114D160FPV]

## R5F71494AN80FPV
designator U?
32-Bit RISC Microcomputer, SH7146 Series, SH-2 core, 80MHz, 256K ROM, 8K RAM, 100-pin PLQFP, -20 to 85°C; Published: 28-Aug-2009; DatasheetVersion: Rev.3.00, May-2007; PackageVersion: Sep-2005; PackageReference: PLQP0100KB-A; Publisher: Altium Limited; PackageDescription: 100-Pin Plastic Low Profile QFP, 14 x 14 x 1.4 mm Body, 0.5 mm Pitch; Code_JEITA: P-LQFP100-14x14-0.50; Code_IPC: SQFP50P1600X1600-100; ComponentLink1Description: Manufacturer Link; ComponentLink1URL: http://www.renesas.com/fmwk.jsp?cnt=sh7146_root.jsp&fp=/products/mpumcu/superh_family/sh7146_series/sh7146_group/; ComponentLink2Description: Datasheet; ComponentLink2URL: http://documentation.renesas.com/eng/products/mpumcu/rej09b0229_sh7146hm.pdf; ComponentLink3Description: Packaging Specification; ComponentLink3URL: http://sg.renesas.com/media/products/common_info/package/pdf/ic/code/plqp0100kb_a.pdf
footprint PLQP0100KB-A_N (Shrink QFP, 100-Leads, Body 14x14mm, Pitch 0.5mm, IPC Medium Density)
footprint PLQP0100KB-A_L (Shrink QFP, 100-Leads, Body 14x14mm, Pitch 0.5mm, IPC High Density)
footprint PLQP0100KB-A_M (Shrink QFP, 100-Leads, Body 14x14mm, Pitch 0.5mm, IPC Low Density)
part A pins: 1 PE19/~{RD}/TIOC4BS/TDO (io), 2 PE18/~{CS1}/TIOC4AS/TDI (io), 3 PE17/~{CS0}/TIOC3DS/TCK (io), 4 PE16/~{WAIT}/TIOC3BS/~{ASEBRKAK}/~{ASEBRK} (io), 6 PE15/TIOC4D/~{IRQOUT} (io), 8 PE14/TIOC4C (io), 9 PE13/TIOC4B/~{MRES} (io), 10 PE12/TIOC4A (io), 11 PE11/TIOC3D (io), 13 PE9/TIOC3B (io), 14 PE10/~{CS0}/TIOC3C (io), 15 PE8/A15/TIOC3A (io), 16 PE7/A14/TIOC2B (io), 17 PE6/A13/TIOC2A/SCK1 (io), 18 PE5/A12/TIOC1B/TXD1 (io), 19 PE4/A11/TIOC1A/RXD1 (io), 20 PE3/TIOC0D/SCK0 (io), 21 PE2/TIOC0C/TXD0 (io), 23 PE1/TIOC0B/RXD0 (io), 25 PE0/TIOC0A (io), 26 PB18/~{POE8} (io), 27 PD15/D15/~{AUDSYNC} (io), 28 PD14/D14/AUDCK (io), 29 PD13/D13 (io), 30 PD12/D12 (io), 31 PD11/D11/AUDATA3 (io), 32 PD10/D10/AUDATA2 (io), 33 PD9/D9/AUDATA1 (io), 34 PD8/D8/SCK2/AUDATA0 (io), 35 PD7/D7/IRQ3/TXD2 (io), 36 PD6/D6/IRQ2/RXD2 (io), 37 PD5/D5/IRQ1/SCK1 (io), 38 PD4/D4/IRQ0/TXD1 (io), 40 PD3/D3/RXD1 (io), 42 PD2/D2/SCK0 (io), 43 PD1/D1/TXD0 (io), 44 PD0/D0/RXD0 (io), 45 PA15/CK/TXD1 (io), 46 PA14/A10/RXD1 (io), 47 PA13/A9/SCK1 (io), 48 PA12/A8/SCK0 (io), 49 PA11/A7/TXD0/~{ADTRG} (io), 50 PA10/A6/RXD0 (io), 51 PA9/~{WAIT}/TCLKD/~{POE8}/TXD2 (io), 52 PA8/~{WRL}/TCLKC/~{POE6}/RXD2 (io), 53 PA7/~{WRH}/TCLKB/~{POE5}/SCK2 (io), 54 PA6/~{RD}/~{UBCTRG}/TCLKA/~{POE4} (io), 55 PA5/A5/IRQ3/SCK1 (io), 56 PA4/A4/IRQ2/TXD1 (io), 58 PA3/A3/IRQ1/RXD1 (io), 60 PA2/A2/IRQ0/~{POE2}/SCK0 (io), 62 PA1/A1/~{POE1}/TXD0 (io), 63 PA0/A0/~{POE0}/RXD0 (io), 64 ~{RES} (in), 65 ~{WDTOVF} (out), 66 XTAL (in), 67 EXTAL (in), 69 NMI (in), 71 MD1 (in), 72 MD0 (in), 74 PB5/A19/IRQ3/~{POE5}/TIC5U (io), 76 PB4/A18/IRQ2/~{POE4}/TIC5US (io), 77 PB3/A17/IRQ1/~{POE1}/TIC5V (io), 78 PB2/A16/IRQ0/~{POE0}/TIC5VS (io), 79 PB1/~{BREQ}/TIC5W (io), 80 PB0/~{BACK}/TIC5WS (io), 82 PF15/AN15 (io), 83 PF14/AN14 (io), 84 PF13/AN13 (io), 85 PF12/AN12 (io), 86 PF11/AN11 (io), 87 PF10/AN10 (io), 88 PF9/AN9 (io), 89 PF8/AN8 (io), 91 PF6/AN6 (io), 92 PF4/AN4 (io), 94 PF2/AN2 (io), 95 PF0/AN0 (io), 97 PB16/~{POE3} (io), 98 PB17/~{POE7} (io), 99 PE21/~{WRL}/TIOC4DS/~{TRST} (io), 100 PE20/~{WRH}/TIOC4CS/~{TMS} (io)
part B pins: 5 VCC (power), 12 VCL (power), 24 VCC (power), 39 VCC (power), 59 VCC (power), 61 VCL (power), 68 VCC(~{ASEMD0}) (power), 73 VCC (power), 90 AVCC (power), 96 AVCC (power)
part C pins: 7 VSS (power), 22 VSS (power), 41 VSS (power), 57 VSS (power), 70 VSS(FWE) (power), 75 PLLVSS (power), 81 AVSS (power), 93 AVSS (power)

## R5F72114D160FPV
designator U?
32-Bit RISC Microcomputer, SH7210 Series, SH-2A core, 160MHz, 384K ROM, 24K RAM, 144-pin PLQFP, -40 to 85°C; Published: 28-Aug-2009; DatasheetVersion: Rev.3.00, Mar-2009; PackageVersion: Sep-2005; PackageReference: PLQP0144KA-A; Publisher: Altium Limited; PackageDescription: 144-Pin Plastic Low Profile QFP, 20 x 20 x 1.4 mm Body, 0.5 mm Pitch; Code_JEITA: P-LQFP144-20x20-0.50; Code_IPC: SQFP50P2200X2200-144; ComponentLink1Description: Manufacturer Link; ComponentLink1URL: http://www.renesas.com/fmwk.jsp?cnt=sh7211_root.jsp&fp=/products/mpumcu/superh_family/sh7210_series/sh7211_group/; ComponentLink2Description: Datasheet; ComponentLink2URL: http://documentation.renesas.com/eng/products/mpumcu/rej09b0344_sh7211hm.pdf; ComponentLink3Description: Packaging Specification; ComponentLink3URL: http://sg.renesas.com/media/products/common_info/package/pdf/ic/code/plqp0144ka_a.pdf
footprint PLQP0144KA-A_N (Shrink QFP, 144-Leads, Body 20x20mm, Pitch 0.5mm, IPC Medium Density)
footprint PLQP0144KA-A_L (Shrink QFP, 144-Leads, Body 20x20mm, Pitch 0.5mm, IPC High Density)
footprint PLQP0144KA-A_M (Shrink QFP, 144-Leads, Body 20x20mm, Pitch 0.5mm, IPC Low Density)
part A pins: 1 PA18/IRQ0/A18 (io), 2 PA19/IRQ1/A19 (io), 3 PA20/IRQ2/A20 (io), 4 PA21/IRQ3/A21 (io), 5 PA22/TIOC0A/IRQ4/A22 (io), 6 PA23/SCK1/TIOC0B/IRQ5/A23 (io), 7 PA24/RXD1/TIOC0C/IRQ6/A24 (io), 8 PA25/TXD1/TIOC0D/IRQ7/A25 (io), 11 NMI (in), 12 TDI (in), 15 TDO (out), 16 TCK/WSCK (io), 17 TMS/WTXD (io), 18 ~{TRST}/WRXD (in), 19 ~{WDTOVF} (out), 22 ~{RES} (in), 23 FWE (in), 24 TESTMD (in), 25 XTAL (out), 26 EXTAL (in), 29 ~{ASEMD} (in), 30 PB30/~{ASEBRKAK}/~{ASEBRK/UBCTRG/IRQOUT}/~{REFOUT} (io), 31 MD_CLK0 (in), 32 MD_CLK2 (in), 33 MD0 (in), 34 MD1 (in), 37 PD0/D0 (io), 38 PD1/D1 (io), 39 PD2/D2 (io), 40 PD3/D3 (io), 43 PD4/D4 (io), 44 PD5/D5 (io), 45 PD6/D6 (io), 46 PD7/D7 (io), 49 PD8/D8 (io), 50 PD9/D9 (io), 51 PD10/D10/TIC5W (io), 52 PD11/D11/TIC5V (io), 53 PD12/D12/TIC5U (io), 56 PD13/D13/TIC5WS (io), 57 PD14/D14/TIC5VS (io), 58 PD15/D15/TIC5US (io), 59 PB0/RXD0/~{POE0}/~{RD} (io), 60 PB1/TXD0/~{POE8}/RD/~{WR} (io), 63 PB2/SCK0/~{POE4}/~{CS0} (io), 64 PB3/CK (io), 65 PB4/TIOC4A/CKE (io), 66 PB5/TIOC4B/IRQ2/~{RASL} (io), 69 PB6/TIOC4C/IRQ3/~{CASL} (io), 70 PB7/TIOC4D/IRQ7/~{CS7} (io), 71 PB8/RXD3/TIOC3AS/~{WE0}/~{DQMLL} (io), 72 PB9/TXD3/TIOC3CS/~{WE1}/~{DQMLU} (io), 75 PB10/RXD2/TIOC4CS/~{WAIT}/DREQ3 (io), 76 PB11/TXD2/TIOC4DS/~{AH}/DACK3 (io), 79 PB12/TXD2/TIOC4AS/~{BREQ} (io), 80 PB13/SCK2/TIOC4BS/~{BACK} (io), 81 PB14/RXD2/~{ADTRG}/~{MRES} (io), 82 PB15/TIOC3C/IRQ5/~{CS5} (io), 83 PB16/TXD0/~{POE1}/~{CS1} (io), 84 PB17/TIOC3A/IRQ1/~{CS3} (io), 87 PB18/TIOC3B/IRQ4/~{CS4} (io), 88 PB19/TIOC3D/IRQ6/~{CS6} (io), 91 PB20/TIOC3DS/~{BS} (io), 92 PB21/TIOC3BS/RXD0/IRQ0/~{CS2} (io), 95 DA1 (out), 96 DA0 (out), 97 AN0 (in), 98 AN1 (in), 99 AN2 (in), 100 AN3 (in), 101 AN4 (in), 102 AN5 (in), 103 AN6 (in), 104 AN7 (in), 105 AVREF (power), 107 PF0/SCL/~{POE7}/IRQ0 (io), 108 PF1/SDA/~{POE3}/IRQ1 (io), 109 PB22/AUDSYNC/RXD2/TCLKD/DACK2 (io), 110 PB23/AUDCK/TXD2/TCLKC/DREQ2 (io), 111 PB24/AUDATA3/RXD3/TCLKB/IRQ2/TEND1 (io), 112 PB25/AUDATA2/TXD3/TCLKA/IRQ3/DACK1 (io), 115 PB26/AUDATA1/SCK3/TIOC2B/DREQ1 (io), 116 PB27/AUDATA0/TXD3/TIOC2A/TEND0 (io), 117 PB28/RXD3/TIOC1A/DACK0 (io), 120 PB29/TIOC1B/DREQ0 (io), 121 PA0/A0 (io), 122 PA1/A1 (io), 123 PA2/A2 (io), 126 PA3/A3 (io), 127 PA4/A4 (io), 128 PA5/A5 (io), 129 PA6/A6 (io), 130 PA7/A7 (io), 133 PA8/A8 (io), 134 PA9/A9 (io), 135 PA10/A10 (io), 136 PA11/A11 (io), 137 PA12/A12 (io), 138 PA13/A13 (io), 141 PA14/A14 (io), 142 PA15/SCK3/A15 (io), 143 PA16/RXD3/A16 (io), 144 PA17/TXD3/A17 (io)
part B pins: 9 VCCQ (power), 13 VCC (power), 20 VCC (power), 28 VCCQ (power), 35 PLLVCC (power), 42 VCCQ (power), 47 VCC (power), 54 VCCQ (power), 62 VCC (power), 67 VCCQ (power), 73 VCC (power), 78 VCCQ (power), 85 VCC (power), 90 VCCQ (power), 94 AVCC (power), 114 VCCQ (power), 119 VCC (power), 124 VCCQ (power), 132 VCC (power), 139 VCCQ (power)
part C pins: 10 VSSQ (power), 14 VSS (power), 21 VSS (power), 27 VSSQ (power), 36 PLLVSS (power), 41 VSSQ (power), 48 VSS (power), 55 VSSQ (power), 61 VSS (power), 68 VSSQ (power), 74 VSS (power), 77 VSSQ (power), 86 VSS (power), 89 VSSQ (power), 93 AVSS (power), 106 AVREFVSS (power), 113 VSSQ (power), 118 VSS (power), 125 VSSQ (power), 131 VSS (power), 140 VSSQ (power)

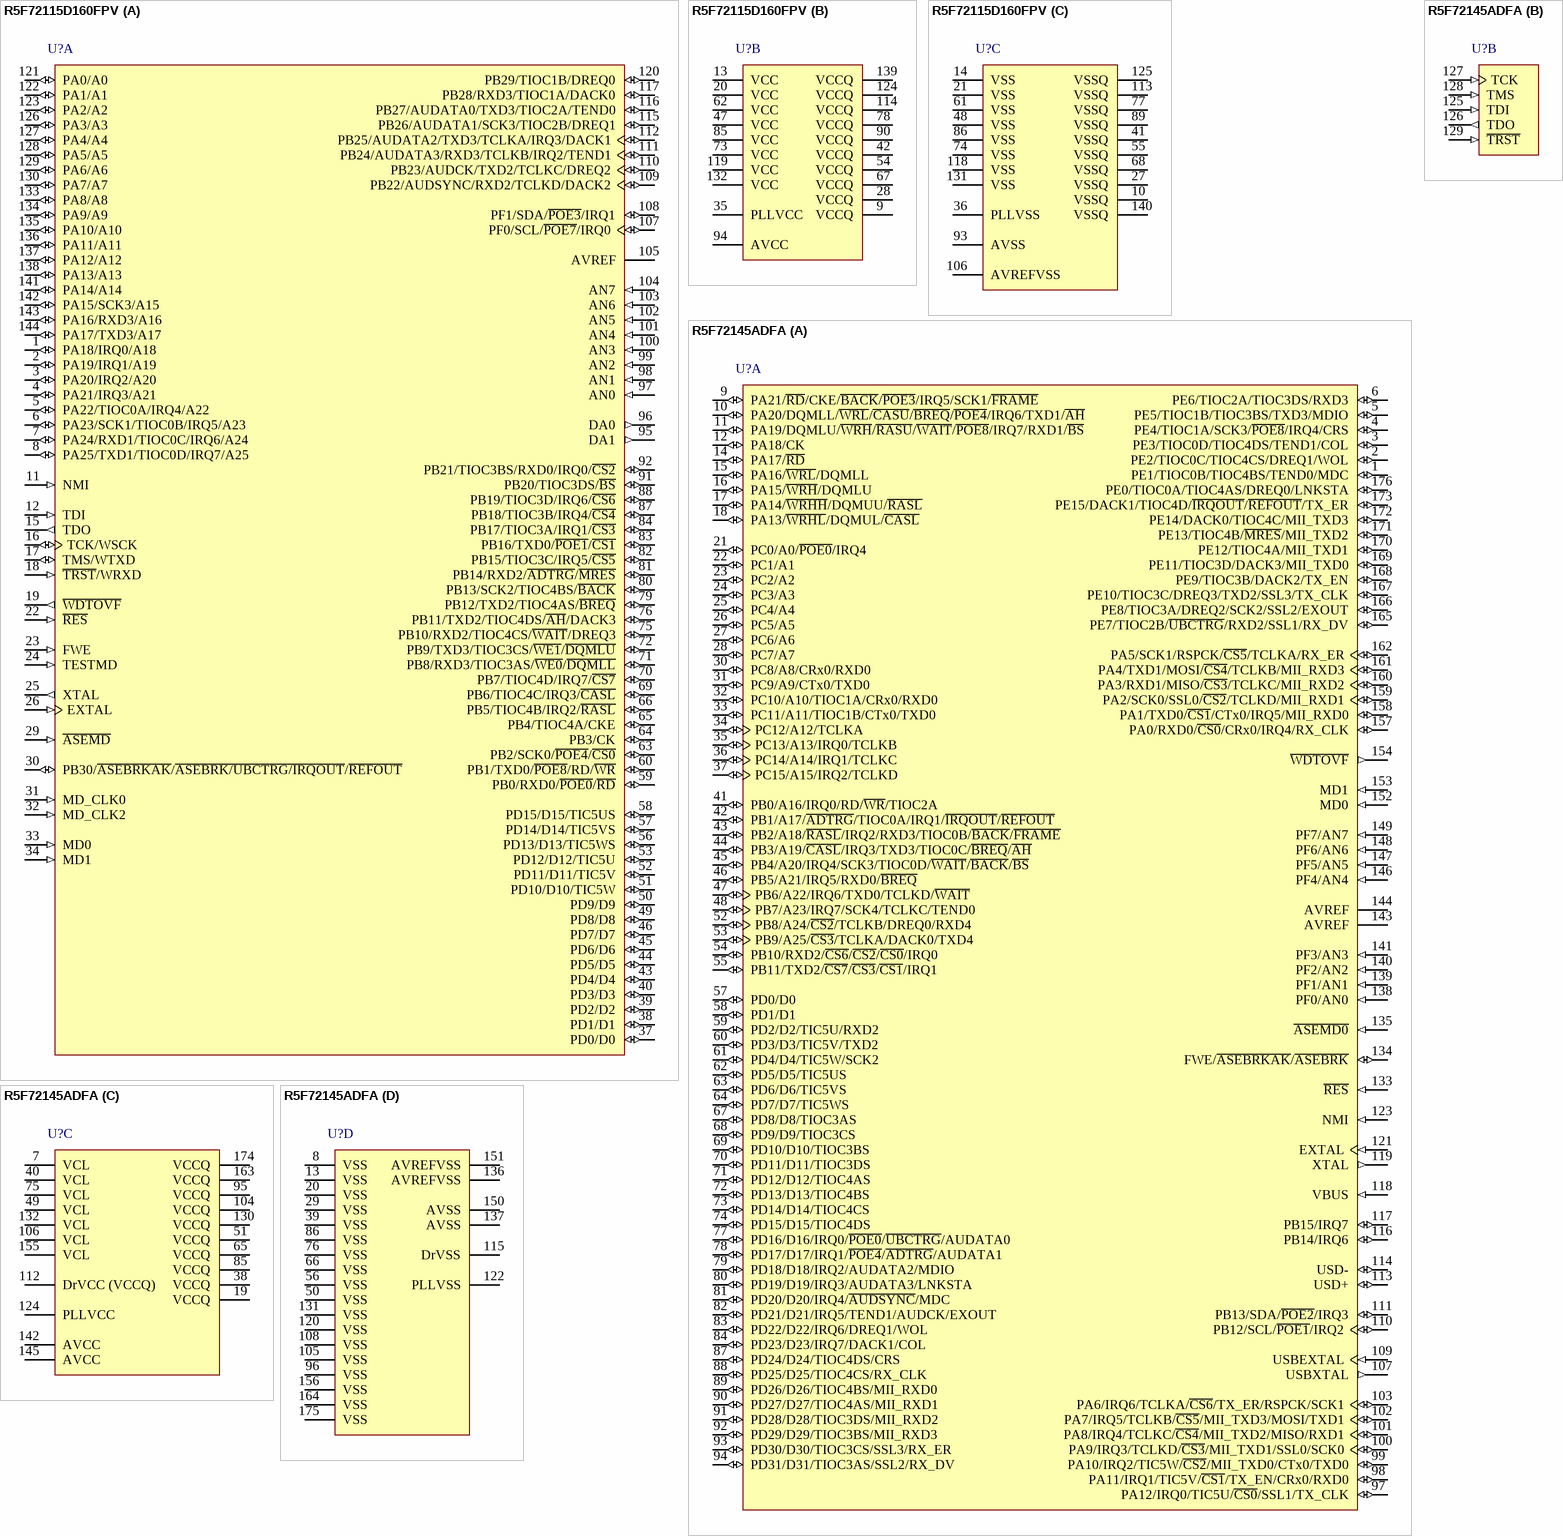
[diagram p158: symbols R5F72115D160FPV to R5F72145ADFA]

## R5F72115D160FPV
designator U?
32-Bit RISC Microcomputer, SH7210 Series, SH-2A core, 160MHz, 512K ROM, 32K RAM, 144-pin PLQFP, -40 to 85°C; Published: 28-Aug-2009; DatasheetVersion: Rev.3.00, Mar-2009; PackageVersion: Sep-2005; PackageReference: PLQP0144KA-A; Publisher: Altium Limited; PackageDescription: 144-Pin Plastic Low Profile QFP, 20 x 20 x 1.4 mm Body, 0.5 mm Pitch; Code_JEITA: P-LQFP144-20x20-0.50; Code_IPC: SQFP50P2200X2200-144; ComponentLink1Description: Manufacturer Link; ComponentLink1URL: http://www.renesas.com/fmwk.jsp?cnt=sh7211_root.jsp&fp=/products/mpumcu/superh_family/sh7210_series/sh7211_group/; ComponentLink2Description: Datasheet; ComponentLink2URL: http://documentation.renesas.com/eng/products/mpumcu/rej09b0344_sh7211hm.pdf; ComponentLink3Description: Packaging Specification; ComponentLink3URL: http://sg.renesas.com/media/products/common_info/package/pdf/ic/code/plqp0144ka_a.pdf
footprint PLQP0144KA-A_N (Shrink QFP, 144-Leads, Body 20x20mm, Pitch 0.5mm, IPC Medium Density)
footprint PLQP0144KA-A_L (Shrink QFP, 144-Leads, Body 20x20mm, Pitch 0.5mm, IPC High Density)
footprint PLQP0144KA-A_M (Shrink QFP, 144-Leads, Body 20x20mm, Pitch 0.5mm, IPC Low Density)
part A pins: 1 PA18/IRQ0/A18 (io), 2 PA19/IRQ1/A19 (io), 3 PA20/IRQ2/A20 (io), 4 PA21/IRQ3/A21 (io), 5 PA22/TIOC0A/IRQ4/A22 (io), 6 PA23/SCK1/TIOC0B/IRQ5/A23 (io), 7 PA24/RXD1/TIOC0C/IRQ6/A24 (io), 8 PA25/TXD1/TIOC0D/IRQ7/A25 (io), 11 NMI (in), 12 TDI (in), 15 TDO (out), 16 TCK/WSCK (io), 17 TMS/WTXD (io), 18 ~{TRST}/WRXD (in), 19 ~{WDTOVF} (out), 22 ~{RES} (in), 23 FWE (in), 24 TESTMD (in), 25 XTAL (out), 26 EXTAL (in), 29 ~{ASEMD} (in), 30 PB30/~{ASEBRKAK}/~{ASEBRK/UBCTRG/IRQOUT}/~{REFOUT} (io), 31 MD_CLK0 (in), 32 MD_CLK2 (in), 33 MD0 (in), 34 MD1 (in), 37 PD0/D0 (io), 38 PD1/D1 (io), 39 PD2/D2 (io), 40 PD3/D3 (io), 43 PD4/D4 (io), 44 PD5/D5 (io), 45 PD6/D6 (io), 46 PD7/D7 (io), 49 PD8/D8 (io), 50 PD9/D9 (io), 51 PD10/D10/TIC5W (io), 52 PD11/D11/TIC5V (io), 53 PD12/D12/TIC5U (io), 56 PD13/D13/TIC5WS (io), 57 PD14/D14/TIC5VS (io), 58 PD15/D15/TIC5US (io), 59 PB0/RXD0/~{POE0}/~{RD} (io), 60 PB1/TXD0/~{POE8}/RD/~{WR} (io), 63 PB2/SCK0/~{POE4}/~{CS0} (io), 64 PB3/CK (io), 65 PB4/TIOC4A/CKE (io), 66 PB5/TIOC4B/IRQ2/~{RASL} (io), 69 PB6/TIOC4C/IRQ3/~{CASL} (io), 70 PB7/TIOC4D/IRQ7/~{CS7} (io), 71 PB8/RXD3/TIOC3AS/~{WE0}/~{DQMLL} (io), 72 PB9/TXD3/TIOC3CS/~{WE1}/~{DQMLU} (io), 75 PB10/RXD2/TIOC4CS/~{WAIT}/DREQ3 (io), 76 PB11/TXD2/TIOC4DS/~{AH}/DACK3 (io), 79 PB12/TXD2/TIOC4AS/~{BREQ} (io), 80 PB13/SCK2/TIOC4BS/~{BACK} (io), 81 PB14/RXD2/~{ADTRG}/~{MRES} (io), 82 PB15/TIOC3C/IRQ5/~{CS5} (io), 83 PB16/TXD0/~{POE1}/~{CS1} (io), 84 PB17/TIOC3A/IRQ1/~{CS3} (io), 87 PB18/TIOC3B/IRQ4/~{CS4} (io), 88 PB19/TIOC3D/IRQ6/~{CS6} (io), 91 PB20/TIOC3DS/~{BS} (io), 92 PB21/TIOC3BS/RXD0/IRQ0/~{CS2} (io), 95 DA1 (out), 96 DA0 (out), 97 AN0 (in), 98 AN1 (in), 99 AN2 (in), 100 AN3 (in), 101 AN4 (in), 102 AN5 (in), 103 AN6 (in), 104 AN7 (in), 105 AVREF (power), 107 PF0/SCL/~{POE7}/IRQ0 (io), 108 PF1/SDA/~{POE3}/IRQ1 (io), 109 PB22/AUDSYNC/RXD2/TCLKD/DACK2 (io), 110 PB23/AUDCK/TXD2/TCLKC/DREQ2 (io), 111 PB24/AUDATA3/RXD3/TCLKB/IRQ2/TEND1 (io), 112 PB25/AUDATA2/TXD3/TCLKA/IRQ3/DACK1 (io), 115 PB26/AUDATA1/SCK3/TIOC2B/DREQ1 (io), 116 PB27/AUDATA0/TXD3/TIOC2A/TEND0 (io), 117 PB28/RXD3/TIOC1A/DACK0 (io), 120 PB29/TIOC1B/DREQ0 (io), 121 PA0/A0 (io), 122 PA1/A1 (io), 123 PA2/A2 (io), 126 PA3/A3 (io), 127 PA4/A4 (io), 128 PA5/A5 (io), 129 PA6/A6 (io), 130 PA7/A7 (io), 133 PA8/A8 (io), 134 PA9/A9 (io), 135 PA10/A10 (io), 136 PA11/A11 (io), 137 PA12/A12 (io), 138 PA13/A13 (io), 141 PA14/A14 (io), 142 PA15/SCK3/A15 (io), 143 PA16/RXD3/A16 (io), 144 PA17/TXD3/A17 (io)
part B pins: 9 VCCQ (power), 13 VCC (power), 20 VCC (power), 28 VCCQ (power), 35 PLLVCC (power), 42 VCCQ (power), 47 VCC (power), 54 VCCQ (power), 62 VCC (power), 67 VCCQ (power), 73 VCC (power), 78 VCCQ (power), 85 VCC (power), 90 VCCQ (power), 94 AVCC (power), 114 VCCQ (power), 119 VCC (power), 124 VCCQ (power), 132 VCC (power), 139 VCCQ (power)
part C pins: 10 VSSQ (power), 14 VSS (power), 21 VSS (power), 27 VSSQ (power), 36 PLLVSS (power), 41 VSSQ (power), 48 VSS (power), 55 VSSQ (power), 61 VSS (power), 68 VSSQ (power), 74 VSS (power), 77 VSSQ (power), 86 VSS (power), 89 VSSQ (power), 93 AVSS (power), 106 AVREFVSS (power), 113 VSSQ (power), 118 VSS (power), 125 VSSQ (power), 131 VSS (power), 140 VSSQ (power)

## R5F72145ADFA
designator U?
32-bit RISC Microcomputer, SH7216 Series, SH2A core, 200MHz, 512K ROM, 64K RAM, 176-Pin QFP; Published: 16-Feb-2010; DatasheetVersion: Rev.1.01, May-2009; PackageVersion: Sep-2005; PackageReference: PLQP0176LB-A; Publisher: Altium Limited; PackageDescription: 176-Pin Plastic Low Profile QFP, 20 x 20 x 1.4 mm Body, 0.4 mm Pitch; Code_JEITA: P-LQFP176-20x20-0.40; ComponentLink1Description: Manufacturer Link; ComponentLink1URL: http://www.renesas.com/fmwk.jsp?cnt=sh7216_root.jsp&fp=/products/mpumcu/superh_family/sh7216_series/sh7216_group/; ComponentLink2Description: Datasheet; ComponentLink2URL: http://documentation.renesas.com/eng/products/mpumcu/rej09b0543_sh7216hm.pdf; ComponentLink3Description: Packaging Specification; ComponentLink3URL: http://sg.renesas.com/media/products/common_info/package/pdf/ic/code/plqp0176lb_a.pdf
footprint PLQP0176LB-A_N (Shrink QFP, 176-Leads, Body 20x20mm, Pitch 0.4mm, IPC Medium Density)
footprint PLQP0176LB-A_L (Shrink QFP, 176-Leads, Body 20x20mm, Pitch 0.4mm, IPC High Density)
footprint PLQP0176LB-A_M (Shrink QFP, 176-Leads, Body 20x20mm, Pitch 0.4mm, IPC Low Density)
part A pins: 1 PE1/TIOC0B/TIOC4BS/TEND0/MDC (io), 2 PE2/TIOC0C/TIOC4CS/DREQ1/WOL (io), 3 PE3/TIOC0D/TIOC4DS/TEND1/COL (io), 4 PE4/TIOC1A/SCK3/~{POE8}/IRQ4/CRS (io), 5 PE5/TIOC1B/TIOC3BS/TXD3/MDIO (io), 6 PE6/TIOC2A/TIOC3DS/RXD3 (io), 9 PA21/~{RD}/CKE/~{BACK}/~{POE3}/IRQ5/SCK1/~{FRAME} (io), 10 PA20/DQMLL/~{WRL}/~{CASU}/~{BREQ}/~{POE4}/IRQ6/TXD1/~{AH} (io), 11 PA19/DQMLU/~{WRH}/~{RASU}/~{WAIT}/~{POE8}/IRQ7/RXD1/~{BS} (io), 12 PA18/CK (io), 14 PA17/~{RD} (io), 15 PA16/~{WRL}/DQMLL (io), 16 PA15/~{WRH}/DQMLU (io), 17 PA14/~{WRHH}/DQMUU/~{RASL} (io), 18 PA13/~{WRHL}/DQMUL/~{CASL} (io), 21 PC0/A0/~{POE0}/IRQ4 (io), 22 PC1/A1 (io), 23 PC2/A2 (io), 24 PC3/A3 (io), 25 PC4/A4 (io), 26 PC5/A5 (io), 27 PC6/A6 (io), 28 PC7/A7 (io), 30 PC8/A8/CRx0/RXD0 (io), 31 PC9/A9/CTx0/TXD0 (io), 32 PC10/A10/TIOC1A/CRx0/RXD0 (io), 33 PC11/A11/TIOC1B/CTx0/TXD0 (io), 34 PC12/A12/TCLKA (io), 35 PC13/A13/IRQ0/TCLKB (io), 36 PC14/A14/IRQ1/TCLKC (io), 37 PC15/A15/IRQ2/TCLKD (io), 41 PB0/A16/IRQ0/RD/~{WR}/TIOC2A (io), 42 PB1/A17/~{ADTRG}/TIOC0A/IRQ1/~{IRQOUT}/~{REFOUT} (io), 43 PB2/A18/~{RASL}/IRQ2/RXD3/TIOC0B/~{BACK}/~{FRAME} (io), 44 PB3/A19/~{CASL}/IRQ3/TXD3/TIOC0C/~{BREQ}/~{AH} (io), 45 PB4/A20/IRQ4/SCK3/TIOC0D/~{WAIT}/~{BACK}/~{BS} (io), 46 PB5/A21/IRQ5/RXD0/~{BREQ} (io), 47 PB6/A22/IRQ6/TXD0/TCLKD/~{WAIT} (io), 48 PB7/A23/IRQ7/SCK4/TCLKC/TEND0 (io), 52 PB8/A24/~{CS2}/TCLKB/DREQ0/RXD4 (io), 53 PB9/A25/~{CS3}/TCLKA/DACK0/TXD4 (io), 54 PB10/RXD2/~{CS6}/~{CS2}/~{CS0}/IRQ0 (io), 55 PB11/TXD2/~{CS7}/~{CS3}/~{CS1}/IRQ1 (io), 57 PD0/D0 (io), 58 PD1/D1 (io), 59 PD2/D2/TIC5U/RXD2 (io), 60 PD3/D3/TIC5V/TXD2 (io), 61 PD4/D4/TIC5W/SCK2 (io), 62 PD5/D5/TIC5US (io), 63 PD6/D6/TIC5VS (io), 64 PD7/D7/TIC5WS (io), 67 PD8/D8/TIOC3AS (io), 68 PD9/D9/TIOC3CS (io), 69 PD10/D10/TIOC3BS (io), 70 PD11/D11/TIOC3DS (io), 71 PD12/D12/TIOC4AS (io), 72 PD13/D13/TIOC4BS (io), 73 PD14/D14/TIOC4CS (io), 74 PD15/D15/TIOC4DS (io), 77 PD16/D16/IRQ0/~{POE0}/~{UBCTRG}/AUDATA0 (io), 78 PD17/D17/IRQ1/~{POE4}/~{ADTRG}/AUDATA1 (io), 79 PD18/D18/IRQ2/AUDATA2/MDIO (io), 80 PD19/D19/IRQ3/AUDATA3/LNKSTA (io), 81 PD20/D20/IRQ4/~{AUDSYNC}/MDC (io), 82 PD21/D21/IRQ5/TEND1/AUDCK/EXOUT (io), 83 PD22/D22/IRQ6/DREQ1/WOL (io), 84 PD23/D23/IRQ7/DACK1/COL (io), 87 PD24/D24/TIOC4DS/CRS (io), 88 PD25/D25/TIOC4CS/RX_CLK (io), 89 PD26/D26/TIOC4BS/MII_RXD0 (io), 90 PD27/D27/TIOC4AS/MII_RXD1 (io), 91 PD28/D28/TIOC3DS/MII_RXD2 (io), 92 PD29/D29/TIOC3BS/MII_RXD3 (io), 93 PD30/D30/TIOC3CS/SSL3/RX_ER (io), 94 PD31/D31/TIOC3AS/SSL2/RX_DV (io), 97 PA12/IRQ0/TIC5U/~{CS0}/SSL1/TX_CLK (io), 98 PA11/IRQ1/TIC5V/~{CS1}/TX_EN/CRx0/RXD0 (io), 99 PA10/IRQ2/TIC5W/~{CS2}/MII_TXD0/CTx0/TXD0 (io), 100 PA9/IRQ3/TCLKD/~{CS3}/MII_TXD1/SSL0/SCK0 (io), 101 PA8/IRQ4/TCLKC/~{CS4}/MII_TXD2/MISO/RXD1 (io), 102 PA7/IRQ5/TCLKB/~{CS5}/MII_TXD3/MOSI/TXD1 (io), 103 PA6/IRQ6/TCLKA/~{CS6}/TX_ER/RSPCK/SCK1 (io), 107 USBXTAL (out), 109 USBEXTAL (in), 110 PB12/SCL/~{POE1}/IRQ2 (io), 111 PB13/SDA/~{POE2}/IRQ3 (io), 113 USD+ (io), 114 USD- (io), 116 PB14/IRQ6 (io), 117 PB15/IRQ7 (io), 118 VBUS (in), 119 XTAL (out), 121 EXTAL (in), 123 NMI (in), 133 ~{RES} (in), 134 FWE/~{ASEBRKAK}/~{ASEBRK} (io), 135 ~{ASEMD0} (in), 138 PF0/AN0 (in), 139 PF1/AN1 (in), 140 PF2/AN2 (in), 141 PF3/AN3 (in), 143 AVREF (power), 144 AVREF (power), 146 PF4/AN4 (in), 147 PF5/AN5 (in), 148 PF6/AN6 (in), 149 PF7/AN7 (in), 152 MD0 (in), 153 MD1 (in), 154 ~{WDTOVF} (out), 157 PA0/RXD0/~{CS0}/CRx0/IRQ4/RX_CLK (io), 158 PA1/TXD0/~{CS1}/CTx0/IRQ5/MII_RXD0 (io), 159 PA2/SCK0/SSL0/~{CS2}/TCLKD/MII_RXD1 (io), 160 PA3/RXD1/MISO/~{CS3}/TCLKC/MII_RXD2 (io), 161 PA4/TXD1/MOSI/~{CS4}/TCLKB/MII_RXD3 (io), 162 PA5/SCK1/RSPCK/~{CS5}/TCLKA/RX_ER (io), 165 PE7/TIOC2B/~{UBCTRG}/RXD2/SSL1/RX_DV (io), 166 PE8/TIOC3A/DREQ2/SCK2/SSL2/EXOUT (io), 167 PE10/TIOC3C/DREQ3/TXD2/SSL3/TX_CLK (io), 168 PE9/TIOC3B/DACK2/TX_EN (io), 169 PE11/TIOC3D/DACK3/MII_TXD0 (io), 170 PE12/TIOC4A/MII_TXD1 (io), 171 PE13/TIOC4B/~{MRES}/MII_TXD2 (io), 172 PE14/DACK0/TIOC4C/MII_TXD3 (io), 173 PE15/DACK1/TIOC4D/~{IRQOUT}/~{REFOUT}/TX_ER (io), 176 PE0/TIOC0A/TIOC4AS/DREQ0/LNKSTA (io)
part B pins: 125 TDI (in), 126 TDO (out), 127 TCK (in), 128 TMS (in), 129 ~{TRST} (in)
part C pins: 7 VCL (power), 19 VCCQ (power), 38 VCCQ (power), 40 VCL (power), 49 VCL (power), 51 VCCQ (power), 65 VCCQ (power), 75 VCL (power), 85 VCCQ (power), 95 VCCQ (power), 104 VCCQ (power), 106 VCL (power), 112 DrVCC (VCCQ) (power), 124 PLLVCC (power), 130 VCCQ (power), 132 VCL (power), 142 AVCC (power), 145 AVCC (power), 155 VCL (power), 163 VCCQ (power), 174 VCCQ (power)
part D pins: 8 VSS (power), 13 VSS (power), 20 VSS (power), 29 VSS (power), 39 VSS (power), 50 VSS (power), 56 VSS (power), 66 VSS (power), 76 VSS (power), 86 VSS (power), 96 VSS (power), 105 VSS (power), 108 VSS (power), 115 DrVSS (power), 120 VSS (power), 122 PLLVSS (power), 131 VSS (power), 136 AVREFVSS (power), 137 AVSS (power), 150 AVSS (power), 151 AVREFVSS (power), 156 VSS (power), 164 VSS (power), 175 VSS (power)

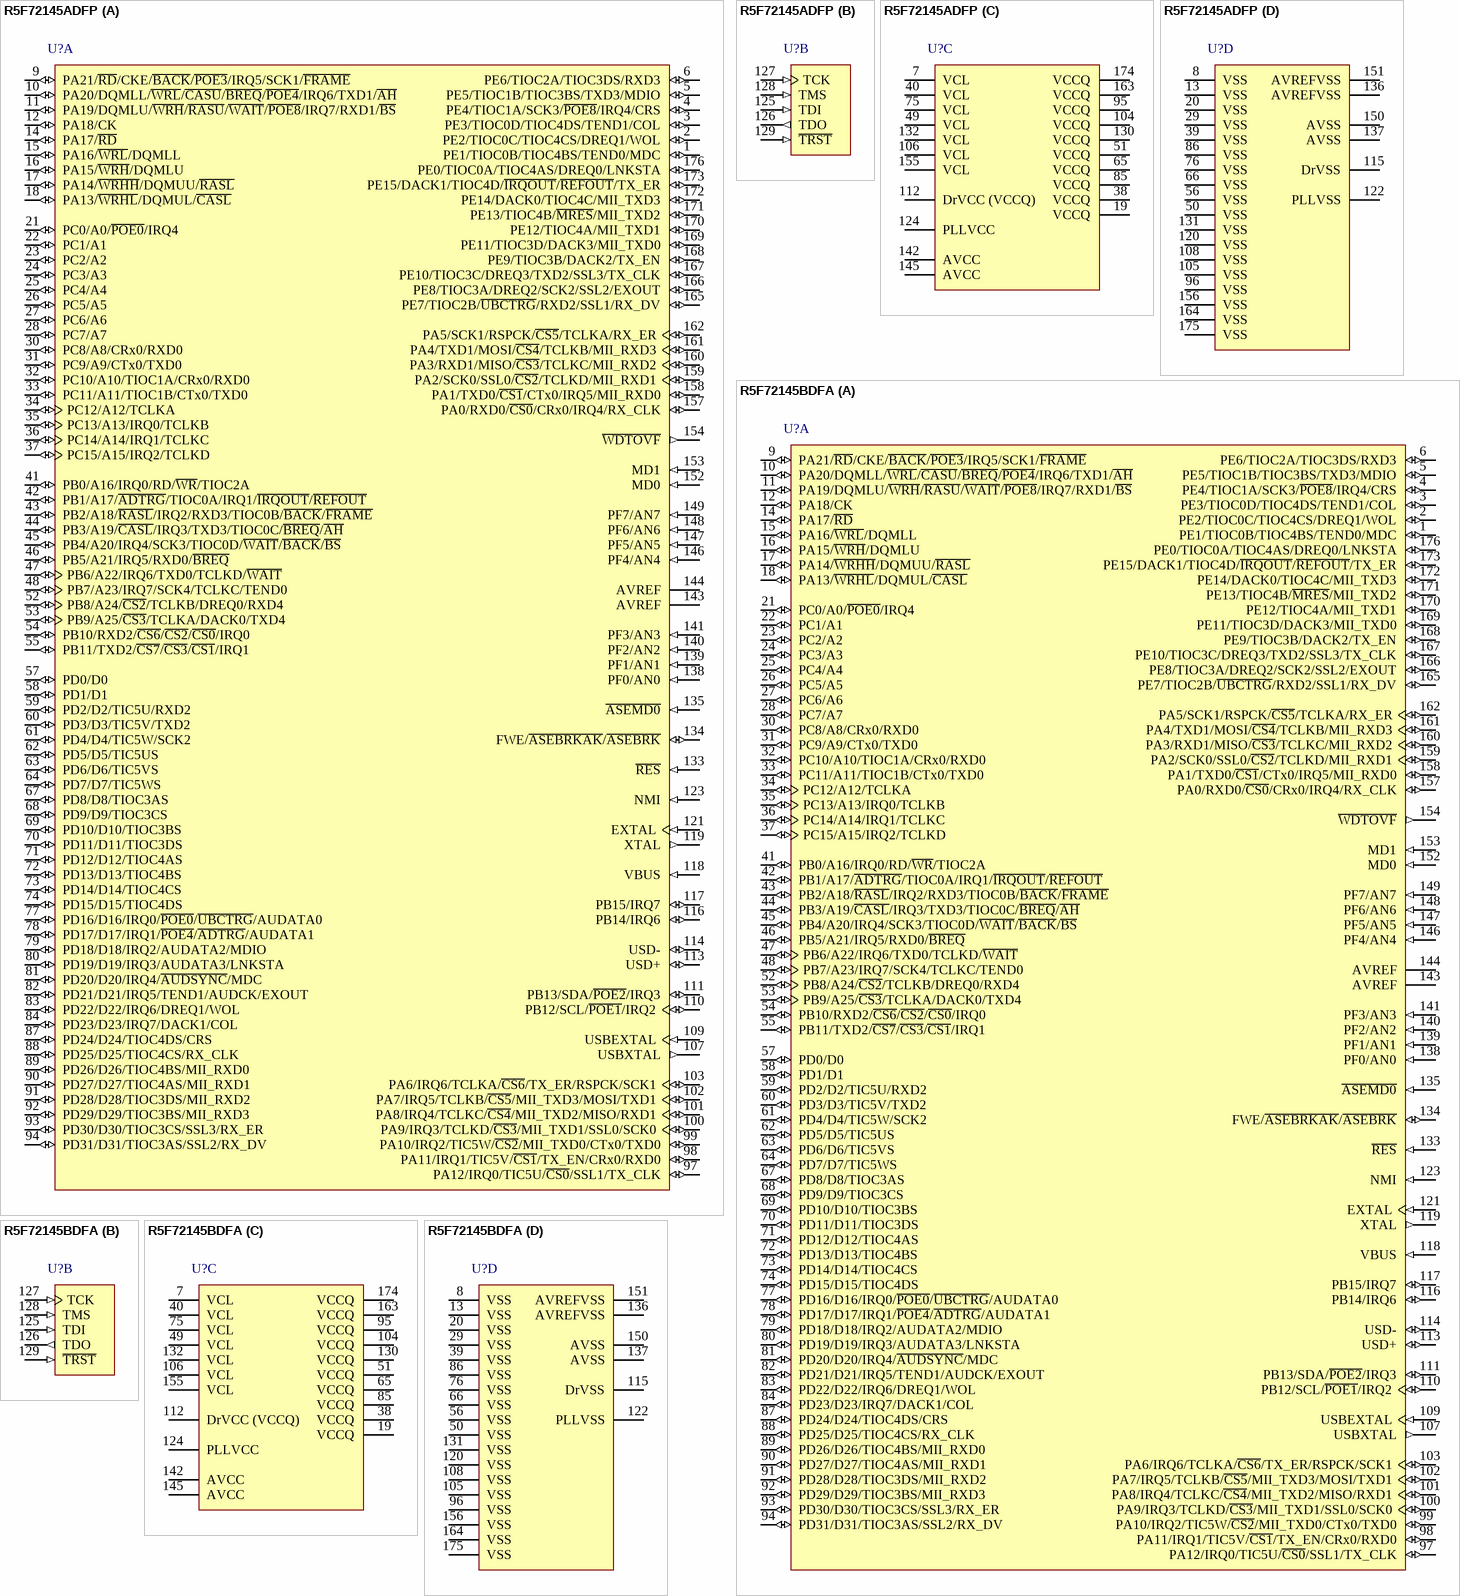
[diagram p159: symbols R5F72145ADFP to R5F72145BDFA]

## R5F72145ADFP
designator U?
32-bit RISC Microcomputer, SH7216 Series, SH2A core, 200MHz, 512K ROM, 64K RAM, 176-Pin QFP; Published: 15-Feb-2010; DatasheetVersion: Rev.1.01, May-2009; PackageVersion: Oct-2005; PackageReference: PLQP0176KB-A; Publisher: Altium Limited; PackageDescription: 176-Pin Plastic Low Profile QFP, 24 x 24 x 1.4 mm Body, 0.5 mm Pitch; Code_JEITA: P-LQFP176-24x24-0.50; ComponentLink1Description: Manufacturer Link; ComponentLink1URL: http://www.renesas.com/fmwk.jsp?cnt=sh7216_root.jsp&fp=/products/mpumcu/superh_family/sh7216_series/sh7216_group/; ComponentLink2Description: Datasheet; ComponentLink2URL: http://documentation.renesas.com/eng/products/mpumcu/rej09b0543_sh7216hm.pdf; ComponentLink3Description: Packaging Specification; ComponentLink3URL: http://sg.renesas.com/media/products/common_info/package/pdf/ic/code/plqp0176kb_a.pdf
footprint PLQP0176KB-A_N (Shrink QFP, 176-Leads, Body 24x24mm, Pitch 0.5mm, IPC Medium Density)
footprint PLQP0176KB-A_L (Shrink QFP, 176-Leads, Body 24x24mm, Pitch 0.5mm, IPC High Density)
footprint PLQP0176KB-A_M (Shrink QFP, 176-Leads, Body 24x24mm, Pitch 0.5mm, IPC Low Density)
part A pins: 1 PE1/TIOC0B/TIOC4BS/TEND0/MDC (io), 2 PE2/TIOC0C/TIOC4CS/DREQ1/WOL (io), 3 PE3/TIOC0D/TIOC4DS/TEND1/COL (io), 4 PE4/TIOC1A/SCK3/~{POE8}/IRQ4/CRS (io), 5 PE5/TIOC1B/TIOC3BS/TXD3/MDIO (io), 6 PE6/TIOC2A/TIOC3DS/RXD3 (io), 9 PA21/~{RD}/CKE/~{BACK}/~{POE3}/IRQ5/SCK1/~{FRAME} (io), 10 PA20/DQMLL/~{WRL}/~{CASU}/~{BREQ}/~{POE4}/IRQ6/TXD1/~{AH} (io), 11 PA19/DQMLU/~{WRH}/~{RASU}/~{WAIT}/~{POE8}/IRQ7/RXD1/~{BS} (io), 12 PA18/CK (io), 14 PA17/~{RD} (io), 15 PA16/~{WRL}/DQMLL (io), 16 PA15/~{WRH}/DQMLU (io), 17 PA14/~{WRHH}/DQMUU/~{RASL} (io), 18 PA13/~{WRHL}/DQMUL/~{CASL} (io), 21 PC0/A0/~{POE0}/IRQ4 (io), 22 PC1/A1 (io), 23 PC2/A2 (io), 24 PC3/A3 (io), 25 PC4/A4 (io), 26 PC5/A5 (io), 27 PC6/A6 (io), 28 PC7/A7 (io), 30 PC8/A8/CRx0/RXD0 (io), 31 PC9/A9/CTx0/TXD0 (io), 32 PC10/A10/TIOC1A/CRx0/RXD0 (io), 33 PC11/A11/TIOC1B/CTx0/TXD0 (io), 34 PC12/A12/TCLKA (io), 35 PC13/A13/IRQ0/TCLKB (io), 36 PC14/A14/IRQ1/TCLKC (io), 37 PC15/A15/IRQ2/TCLKD (io), 41 PB0/A16/IRQ0/RD/~{WR}/TIOC2A (io), 42 PB1/A17/~{ADTRG}/TIOC0A/IRQ1/~{IRQOUT}/~{REFOUT} (io), 43 PB2/A18/~{RASL}/IRQ2/RXD3/TIOC0B/~{BACK}/~{FRAME} (io), 44 PB3/A19/~{CASL}/IRQ3/TXD3/TIOC0C/~{BREQ}/~{AH} (io), 45 PB4/A20/IRQ4/SCK3/TIOC0D/~{WAIT}/~{BACK}/~{BS} (io), 46 PB5/A21/IRQ5/RXD0/~{BREQ} (io), 47 PB6/A22/IRQ6/TXD0/TCLKD/~{WAIT} (io), 48 PB7/A23/IRQ7/SCK4/TCLKC/TEND0 (io), 52 PB8/A24/~{CS2}/TCLKB/DREQ0/RXD4 (io), 53 PB9/A25/~{CS3}/TCLKA/DACK0/TXD4 (io), 54 PB10/RXD2/~{CS6}/~{CS2}/~{CS0}/IRQ0 (io), 55 PB11/TXD2/~{CS7}/~{CS3}/~{CS1}/IRQ1 (io), 57 PD0/D0 (io), 58 PD1/D1 (io), 59 PD2/D2/TIC5U/RXD2 (io), 60 PD3/D3/TIC5V/TXD2 (io), 61 PD4/D4/TIC5W/SCK2 (io), 62 PD5/D5/TIC5US (io), 63 PD6/D6/TIC5VS (io), 64 PD7/D7/TIC5WS (io), 67 PD8/D8/TIOC3AS (io), 68 PD9/D9/TIOC3CS (io), 69 PD10/D10/TIOC3BS (io), 70 PD11/D11/TIOC3DS (io), 71 PD12/D12/TIOC4AS (io), 72 PD13/D13/TIOC4BS (io), 73 PD14/D14/TIOC4CS (io), 74 PD15/D15/TIOC4DS (io), 77 PD16/D16/IRQ0/~{POE0}/~{UBCTRG}/AUDATA0 (io), 78 PD17/D17/IRQ1/~{POE4}/~{ADTRG}/AUDATA1 (io), 79 PD18/D18/IRQ2/AUDATA2/MDIO (io), 80 PD19/D19/IRQ3/AUDATA3/LNKSTA (io), 81 PD20/D20/IRQ4/~{AUDSYNC}/MDC (io), 82 PD21/D21/IRQ5/TEND1/AUDCK/EXOUT (io), 83 PD22/D22/IRQ6/DREQ1/WOL (io), 84 PD23/D23/IRQ7/DACK1/COL (io), 87 PD24/D24/TIOC4DS/CRS (io), 88 PD25/D25/TIOC4CS/RX_CLK (io), 89 PD26/D26/TIOC4BS/MII_RXD0 (io), 90 PD27/D27/TIOC4AS/MII_RXD1 (io), 91 PD28/D28/TIOC3DS/MII_RXD2 (io), 92 PD29/D29/TIOC3BS/MII_RXD3 (io), 93 PD30/D30/TIOC3CS/SSL3/RX_ER (io), 94 PD31/D31/TIOC3AS/SSL2/RX_DV (io), 97 PA12/IRQ0/TIC5U/~{CS0}/SSL1/TX_CLK (io), 98 PA11/IRQ1/TIC5V/~{CS1}/TX_EN/CRx0/RXD0 (io), 99 PA10/IRQ2/TIC5W/~{CS2}/MII_TXD0/CTx0/TXD0 (io), 100 PA9/IRQ3/TCLKD/~{CS3}/MII_TXD1/SSL0/SCK0 (io), 101 PA8/IRQ4/TCLKC/~{CS4}/MII_TXD2/MISO/RXD1 (io), 102 PA7/IRQ5/TCLKB/~{CS5}/MII_TXD3/MOSI/TXD1 (io), 103 PA6/IRQ6/TCLKA/~{CS6}/TX_ER/RSPCK/SCK1 (io), 107 USBXTAL (out), 109 USBEXTAL (in), 110 PB12/SCL/~{POE1}/IRQ2 (io), 111 PB13/SDA/~{POE2}/IRQ3 (io), 113 USD+ (io), 114 USD- (io), 116 PB14/IRQ6 (io), 117 PB15/IRQ7 (io), 118 VBUS (in), 119 XTAL (out), 121 EXTAL (in), 123 NMI (in), 133 ~{RES} (in), 134 FWE/~{ASEBRKAK}/~{ASEBRK} (io), 135 ~{ASEMD0} (in), 138 PF0/AN0 (in), 139 PF1/AN1 (in), 140 PF2/AN2 (in), 141 PF3/AN3 (in), 143 AVREF (power), 144 AVREF (power), 146 PF4/AN4 (in), 147 PF5/AN5 (in), 148 PF6/AN6 (in), 149 PF7/AN7 (in), 152 MD0 (in), 153 MD1 (in), 154 ~{WDTOVF} (out), 157 PA0/RXD0/~{CS0}/CRx0/IRQ4/RX_CLK (io), 158 PA1/TXD0/~{CS1}/CTx0/IRQ5/MII_RXD0 (io), 159 PA2/SCK0/SSL0/~{CS2}/TCLKD/MII_RXD1 (io), 160 PA3/RXD1/MISO/~{CS3}/TCLKC/MII_RXD2 (io), 161 PA4/TXD1/MOSI/~{CS4}/TCLKB/MII_RXD3 (io), 162 PA5/SCK1/RSPCK/~{CS5}/TCLKA/RX_ER (io), 165 PE7/TIOC2B/~{UBCTRG}/RXD2/SSL1/RX_DV (io), 166 PE8/TIOC3A/DREQ2/SCK2/SSL2/EXOUT (io), 167 PE10/TIOC3C/DREQ3/TXD2/SSL3/TX_CLK (io), 168 PE9/TIOC3B/DACK2/TX_EN (io), 169 PE11/TIOC3D/DACK3/MII_TXD0 (io), 170 PE12/TIOC4A/MII_TXD1 (io), 171 PE13/TIOC4B/~{MRES}/MII_TXD2 (io), 172 PE14/DACK0/TIOC4C/MII_TXD3 (io), 173 PE15/DACK1/TIOC4D/~{IRQOUT}/~{REFOUT}/TX_ER (io), 176 PE0/TIOC0A/TIOC4AS/DREQ0/LNKSTA (io)
part B pins: 125 TDI (in), 126 TDO (out), 127 TCK (in), 128 TMS (in), 129 ~{TRST} (in)
part C pins: 7 VCL (power), 19 VCCQ (power), 38 VCCQ (power), 40 VCL (power), 49 VCL (power), 51 VCCQ (power), 65 VCCQ (power), 75 VCL (power), 85 VCCQ (power), 95 VCCQ (power), 104 VCCQ (power), 106 VCL (power), 112 DrVCC (VCCQ) (power), 124 PLLVCC (power), 130 VCCQ (power), 132 VCL (power), 142 AVCC (power), 145 AVCC (power), 155 VCL (power), 163 VCCQ (power), 174 VCCQ (power)
part D pins: 8 VSS (power), 13 VSS (power), 20 VSS (power), 29 VSS (power), 39 VSS (power), 50 VSS (power), 56 VSS (power), 66 VSS (power), 76 VSS (power), 86 VSS (power), 96 VSS (power), 105 VSS (power), 108 VSS (power), 115 DrVSS (power), 120 VSS (power), 122 PLLVSS (power), 131 VSS (power), 136 AVREFVSS (power), 137 AVSS (power), 150 AVSS (power), 151 AVREFVSS (power), 156 VSS (power), 164 VSS (power), 175 VSS (power)